# Altium integrated library Actel IGLOO nano.IntLib: 184 symbols (part 9 of 10)
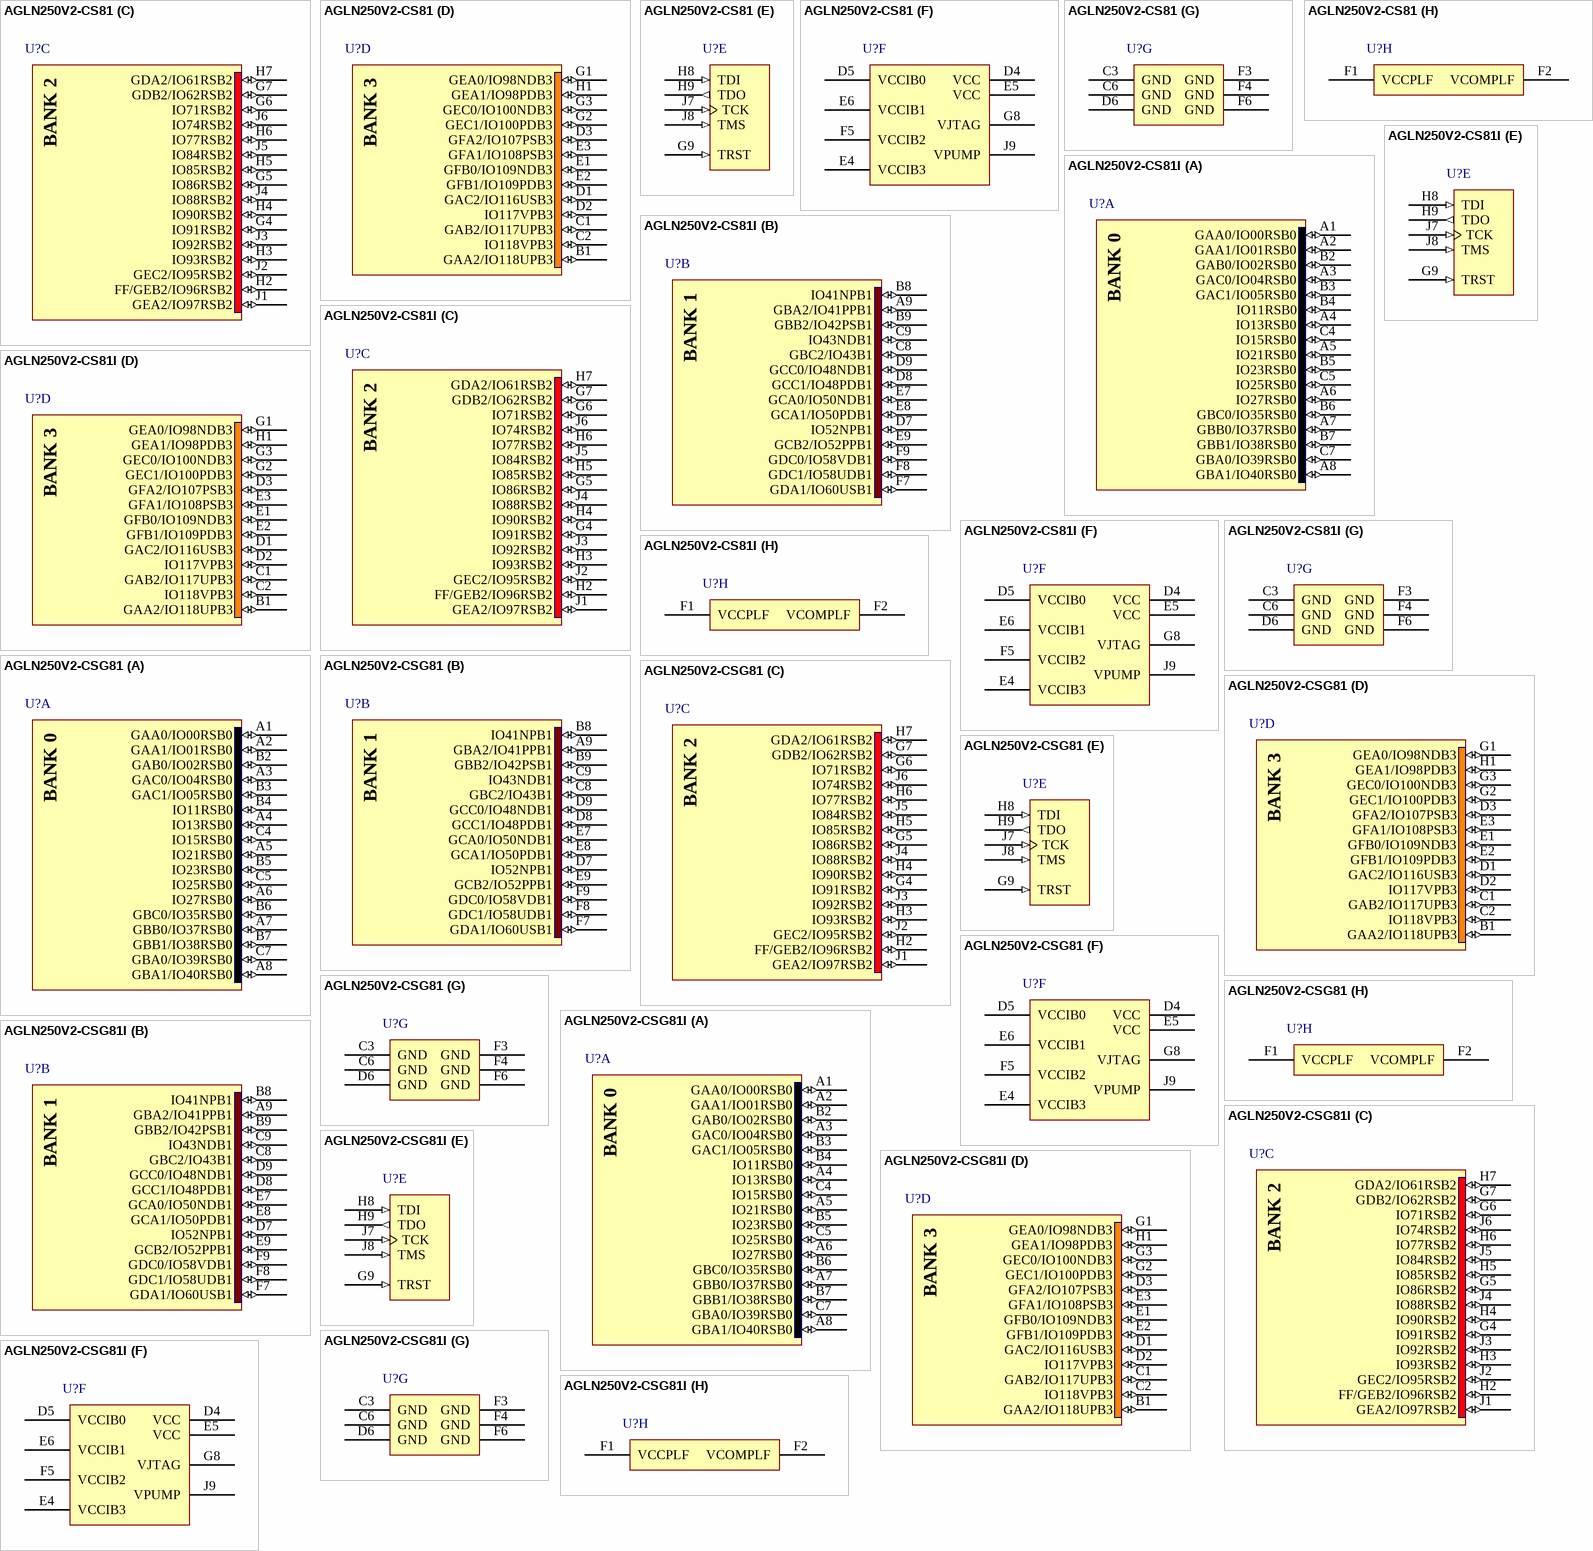
[diagram p56: symbols AGLN250V2-CS81 to AGLN250V2-CSG81I]

## AGLN250V2-CS81I
designator U?
IGLOO nano Low-Power Flash 1.2 to 1.5V FPGA with Flash*Freeze, 60 User IOs, 250K System Gates, 1Kbit Flash ROM, 81-Pin CSP, Industrial Grade; DatasheetVersion: rev11, Jul-2010; PackageVersion: rev40, Jun-2011; PackageReference: CS81; PackageDescription: 81-Ball Chip Scale Ball Grid Array 0.5 mm Pitch (CS81); Code_JEDEC: MO-195-AB; ComponentLink1Description: Manufacturer URL; ComponentLink1URL: http://www.actel.com/; ComponentLink2Description: IGLOO nano Datasheet; ComponentLink2URL: http://www.actel.com/documents/IGLOO_nano_DS.pdf; ComponentLink3Description: Package Mechanical Drawings; ComponentLink3URL: http://www.actel.com/documents/PckgMechDrwngs.pdf; ComponentLink4Description: IGLOO nano Documents; ComponentLink4URL: http://www.actel.com/products/igloonano/docs.aspx
footprint CS81 (BGA, 81-Leads, Body 5x5mm, Pitch 0.5mm)
part A pins: A1 GAA0/IO00RSB0 (io), A2 GAA1/IO01RSB0 (io), A3 GAC0/IO04RSB0 (io), A4 IO13RSB0 (io), A5 IO21RSB0 (io), A6 IO27RSB0 (io), A7 GBB0/IO37RSB0 (io), A8 GBA1/IO40RSB0 (io), B2 GAB0/IO02RSB0 (io), B3 GAC1/IO05RSB0 (io), B4 IO11RSB0 (io), B5 IO23RSB0 (io), B6 GBC0/IO35RSB0 (io), B7 GBB1/IO38RSB0 (io), C4 IO15RSB0 (io), C5 IO25RSB0 (io), C7 GBA0/IO39RSB0 (io)
part B pins: A9 GBA2/IO41PPB1 (io), B8 IO41NPB1 (io), B9 GBB2/IO42PSB1 (io), C8 GBC2/IO43B1 (io), C9 IO43NDB1 (io), D7 IO52NPB1 (io), D8 GCC1/IO48PDB1 (io), D9 GCC0/IO48NDB1 (io), E7 GCA0/IO50NDB1 (io), E8 GCA1/IO50PDB1 (io), E9 GCB2/IO52PPB1 (io), F7 GDA1/IO60USB1 (io), F8 GDC1/IO58UDB1 (io), F9 GDC0/IO58VDB1 (io)
part C pins: G4 IO91RSB2 (io), G5 IO86RSB2 (io), G6 IO71RSB2 (io), G7 GDB2/IO62RSB2 (io), H2 FF/GEB2/IO96RSB2 (io), H3 IO93RSB2 (io), H4 IO90RSB2 (io), H5 IO85RSB2 (io), H6 IO77RSB2 (io), H7 GDA2/IO61RSB2 (io), J1 GEA2/IO97RSB2 (io), J2 GEC2/IO95RSB2 (io), J3 IO92RSB2 (io), J4 IO88RSB2 (io), J5 IO84RSB2 (io), J6 IO74RSB2 (io)
part D pins: B1 GAA2/IO118UPB3 (io), C1 GAB2/IO117UPB3 (io), C2 IO118VPB3 (io), D1 GAC2/IO116USB3 (io), D2 IO117VPB3 (io), D3 GFA2/IO107PSB3 (io), E1 GFB0/IO109NDB3 (io), E2 GFB1/IO109PDB3 (io), E3 GFA1/IO108PSB3 (io), G1 GEA0/IO98NDB3 (io), G2 GEC1/IO100PDB3 (io), G3 GEC0/IO100NDB3 (io), H1 GEA1/IO98PDB3 (io)
part E pins: G9 TRST (in), H8 TDI (in), H9 TDO (out), J7 TCK (in), J8 TMS (in)
part F pins: D4 VCC (power), D5 VCCIB0 (power), E4 VCCIB3 (power), E5 VCC (power), E6 VCCIB1 (power), F5 VCCIB2 (power), G8 VJTAG (power), J9 VPUMP (power)
part G pins: C3 GND (power), C6 GND (power), D6 GND (power), F3 GND (power), F4 GND (power), F6 GND (power)
part H pins: F1 VCCPLF (power), F2 VCOMPLF (power)
part A text: BANK 0
part B text: BANK 1
part C text: BANK 2
part D text: BANK 3

## AGLN250V2-CSG81
designator U?
IGLOO nano Low-Power Flash 1.2 to 1.5V FPGA with Flash*Freeze, 60 User IOs, 250K System Gates, 1Kbit Flash ROM, 81-Pin CSP, Commercial Grade, Pb-Free; DatasheetVersion: rev11, Jul-2010; PackageVersion: rev40, Jun-2011; PackageReference: CS81; PackageDescription: 81-Ball Chip Scale Ball Grid Array 0.5 mm Pitch (CS81); Code_JEDEC: MO-195-AB; ComponentLink1Description: Manufacturer URL; ComponentLink1URL: http://www.actel.com/; ComponentLink2Description: IGLOO nano Datasheet; ComponentLink2URL: http://www.actel.com/documents/IGLOO_nano_DS.pdf; ComponentLink3Description: Package Mechanical Drawings; ComponentLink3URL: http://www.actel.com/documents/PckgMechDrwngs.pdf; ComponentLink4Description: IGLOO nano Documents; ComponentLink4URL: http://www.actel.com/products/igloonano/docs.aspx
footprint CS81 (BGA, 81-Leads, Body 5x5mm, Pitch 0.5mm)
part A pins: A1 GAA0/IO00RSB0 (io), A2 GAA1/IO01RSB0 (io), A3 GAC0/IO04RSB0 (io), A4 IO13RSB0 (io), A5 IO21RSB0 (io), A6 IO27RSB0 (io), A7 GBB0/IO37RSB0 (io), A8 GBA1/IO40RSB0 (io), B2 GAB0/IO02RSB0 (io), B3 GAC1/IO05RSB0 (io), B4 IO11RSB0 (io), B5 IO23RSB0 (io), B6 GBC0/IO35RSB0 (io), B7 GBB1/IO38RSB0 (io), C4 IO15RSB0 (io), C5 IO25RSB0 (io), C7 GBA0/IO39RSB0 (io)
part B pins: A9 GBA2/IO41PPB1 (io), B8 IO41NPB1 (io), B9 GBB2/IO42PSB1 (io), C8 GBC2/IO43B1 (io), C9 IO43NDB1 (io), D7 IO52NPB1 (io), D8 GCC1/IO48PDB1 (io), D9 GCC0/IO48NDB1 (io), E7 GCA0/IO50NDB1 (io), E8 GCA1/IO50PDB1 (io), E9 GCB2/IO52PPB1 (io), F7 GDA1/IO60USB1 (io), F8 GDC1/IO58UDB1 (io), F9 GDC0/IO58VDB1 (io)
part C pins: G4 IO91RSB2 (io), G5 IO86RSB2 (io), G6 IO71RSB2 (io), G7 GDB2/IO62RSB2 (io), H2 FF/GEB2/IO96RSB2 (io), H3 IO93RSB2 (io), H4 IO90RSB2 (io), H5 IO85RSB2 (io), H6 IO77RSB2 (io), H7 GDA2/IO61RSB2 (io), J1 GEA2/IO97RSB2 (io), J2 GEC2/IO95RSB2 (io), J3 IO92RSB2 (io), J4 IO88RSB2 (io), J5 IO84RSB2 (io), J6 IO74RSB2 (io)
part D pins: B1 GAA2/IO118UPB3 (io), C1 GAB2/IO117UPB3 (io), C2 IO118VPB3 (io), D1 GAC2/IO116USB3 (io), D2 IO117VPB3 (io), D3 GFA2/IO107PSB3 (io), E1 GFB0/IO109NDB3 (io), E2 GFB1/IO109PDB3 (io), E3 GFA1/IO108PSB3 (io), G1 GEA0/IO98NDB3 (io), G2 GEC1/IO100PDB3 (io), G3 GEC0/IO100NDB3 (io), H1 GEA1/IO98PDB3 (io)
part E pins: G9 TRST (in), H8 TDI (in), H9 TDO (out), J7 TCK (in), J8 TMS (in)
part F pins: D4 VCC (power), D5 VCCIB0 (power), E4 VCCIB3 (power), E5 VCC (power), E6 VCCIB1 (power), F5 VCCIB2 (power), G8 VJTAG (power), J9 VPUMP (power)
part G pins: C3 GND (power), C6 GND (power), D6 GND (power), F3 GND (power), F4 GND (power), F6 GND (power)
part H pins: F1 VCCPLF (power), F2 VCOMPLF (power)
part A text: BANK 0
part B text: BANK 1
part C text: BANK 2
part D text: BANK 3

## AGLN250V2-CSG81I
designator U?
IGLOO nano Low-Power Flash 1.2 to 1.5V FPGA with Flash*Freeze, 60 User IOs, 250K System Gates, 1Kbit Flash ROM, 81-Pin CSP, Industrial Grade, Pb-Free; DatasheetVersion: rev11, Jul-2010; PackageVersion: rev40, Jun-2011; PackageReference: CS81; PackageDescription: 81-Ball Chip Scale Ball Grid Array 0.5 mm Pitch (CS81); Code_JEDEC: MO-195-AB; ComponentLink1Description: Manufacturer URL; ComponentLink1URL: http://www.actel.com/; ComponentLink2Description: IGLOO nano Datasheet; ComponentLink2URL: http://www.actel.com/documents/IGLOO_nano_DS.pdf; ComponentLink3Description: Package Mechanical Drawings; ComponentLink3URL: http://www.actel.com/documents/PckgMechDrwngs.pdf; ComponentLink4Description: IGLOO nano Documents; ComponentLink4URL: http://www.actel.com/products/igloonano/docs.aspx
footprint CS81 (BGA, 81-Leads, Body 5x5mm, Pitch 0.5mm)
part A pins: A1 GAA0/IO00RSB0 (io), A2 GAA1/IO01RSB0 (io), A3 GAC0/IO04RSB0 (io), A4 IO13RSB0 (io), A5 IO21RSB0 (io), A6 IO27RSB0 (io), A7 GBB0/IO37RSB0 (io), A8 GBA1/IO40RSB0 (io), B2 GAB0/IO02RSB0 (io), B3 GAC1/IO05RSB0 (io), B4 IO11RSB0 (io), B5 IO23RSB0 (io), B6 GBC0/IO35RSB0 (io), B7 GBB1/IO38RSB0 (io), C4 IO15RSB0 (io), C5 IO25RSB0 (io), C7 GBA0/IO39RSB0 (io)
part B pins: A9 GBA2/IO41PPB1 (io), B8 IO41NPB1 (io), B9 GBB2/IO42PSB1 (io), C8 GBC2/IO43B1 (io), C9 IO43NDB1 (io), D7 IO52NPB1 (io), D8 GCC1/IO48PDB1 (io), D9 GCC0/IO48NDB1 (io), E7 GCA0/IO50NDB1 (io), E8 GCA1/IO50PDB1 (io), E9 GCB2/IO52PPB1 (io), F7 GDA1/IO60USB1 (io), F8 GDC1/IO58UDB1 (io), F9 GDC0/IO58VDB1 (io)
part C pins: G4 IO91RSB2 (io), G5 IO86RSB2 (io), G6 IO71RSB2 (io), G7 GDB2/IO62RSB2 (io), H2 FF/GEB2/IO96RSB2 (io), H3 IO93RSB2 (io), H4 IO90RSB2 (io), H5 IO85RSB2 (io), H6 IO77RSB2 (io), H7 GDA2/IO61RSB2 (io), J1 GEA2/IO97RSB2 (io), J2 GEC2/IO95RSB2 (io), J3 IO92RSB2 (io), J4 IO88RSB2 (io), J5 IO84RSB2 (io), J6 IO74RSB2 (io)
part D pins: B1 GAA2/IO118UPB3 (io), C1 GAB2/IO117UPB3 (io), C2 IO118VPB3 (io), D1 GAC2/IO116USB3 (io), D2 IO117VPB3 (io), D3 GFA2/IO107PSB3 (io), E1 GFB0/IO109NDB3 (io), E2 GFB1/IO109PDB3 (io), E3 GFA1/IO108PSB3 (io), G1 GEA0/IO98NDB3 (io), G2 GEC1/IO100PDB3 (io), G3 GEC0/IO100NDB3 (io), H1 GEA1/IO98PDB3 (io)
part E pins: G9 TRST (in), H8 TDI (in), H9 TDO (out), J7 TCK (in), J8 TMS (in)
part F pins: D4 VCC (power), D5 VCCIB0 (power), E4 VCCIB3 (power), E5 VCC (power), E6 VCCIB1 (power), F5 VCCIB2 (power), G8 VJTAG (power), J9 VPUMP (power)
part G pins: C3 GND (power), C6 GND (power), D6 GND (power), F3 GND (power), F4 GND (power), F6 GND (power)
part H pins: F1 VCCPLF (power), F2 VCOMPLF (power)
part A text: BANK 0
part B text: BANK 1
part C text: BANK 2
part D text: BANK 3

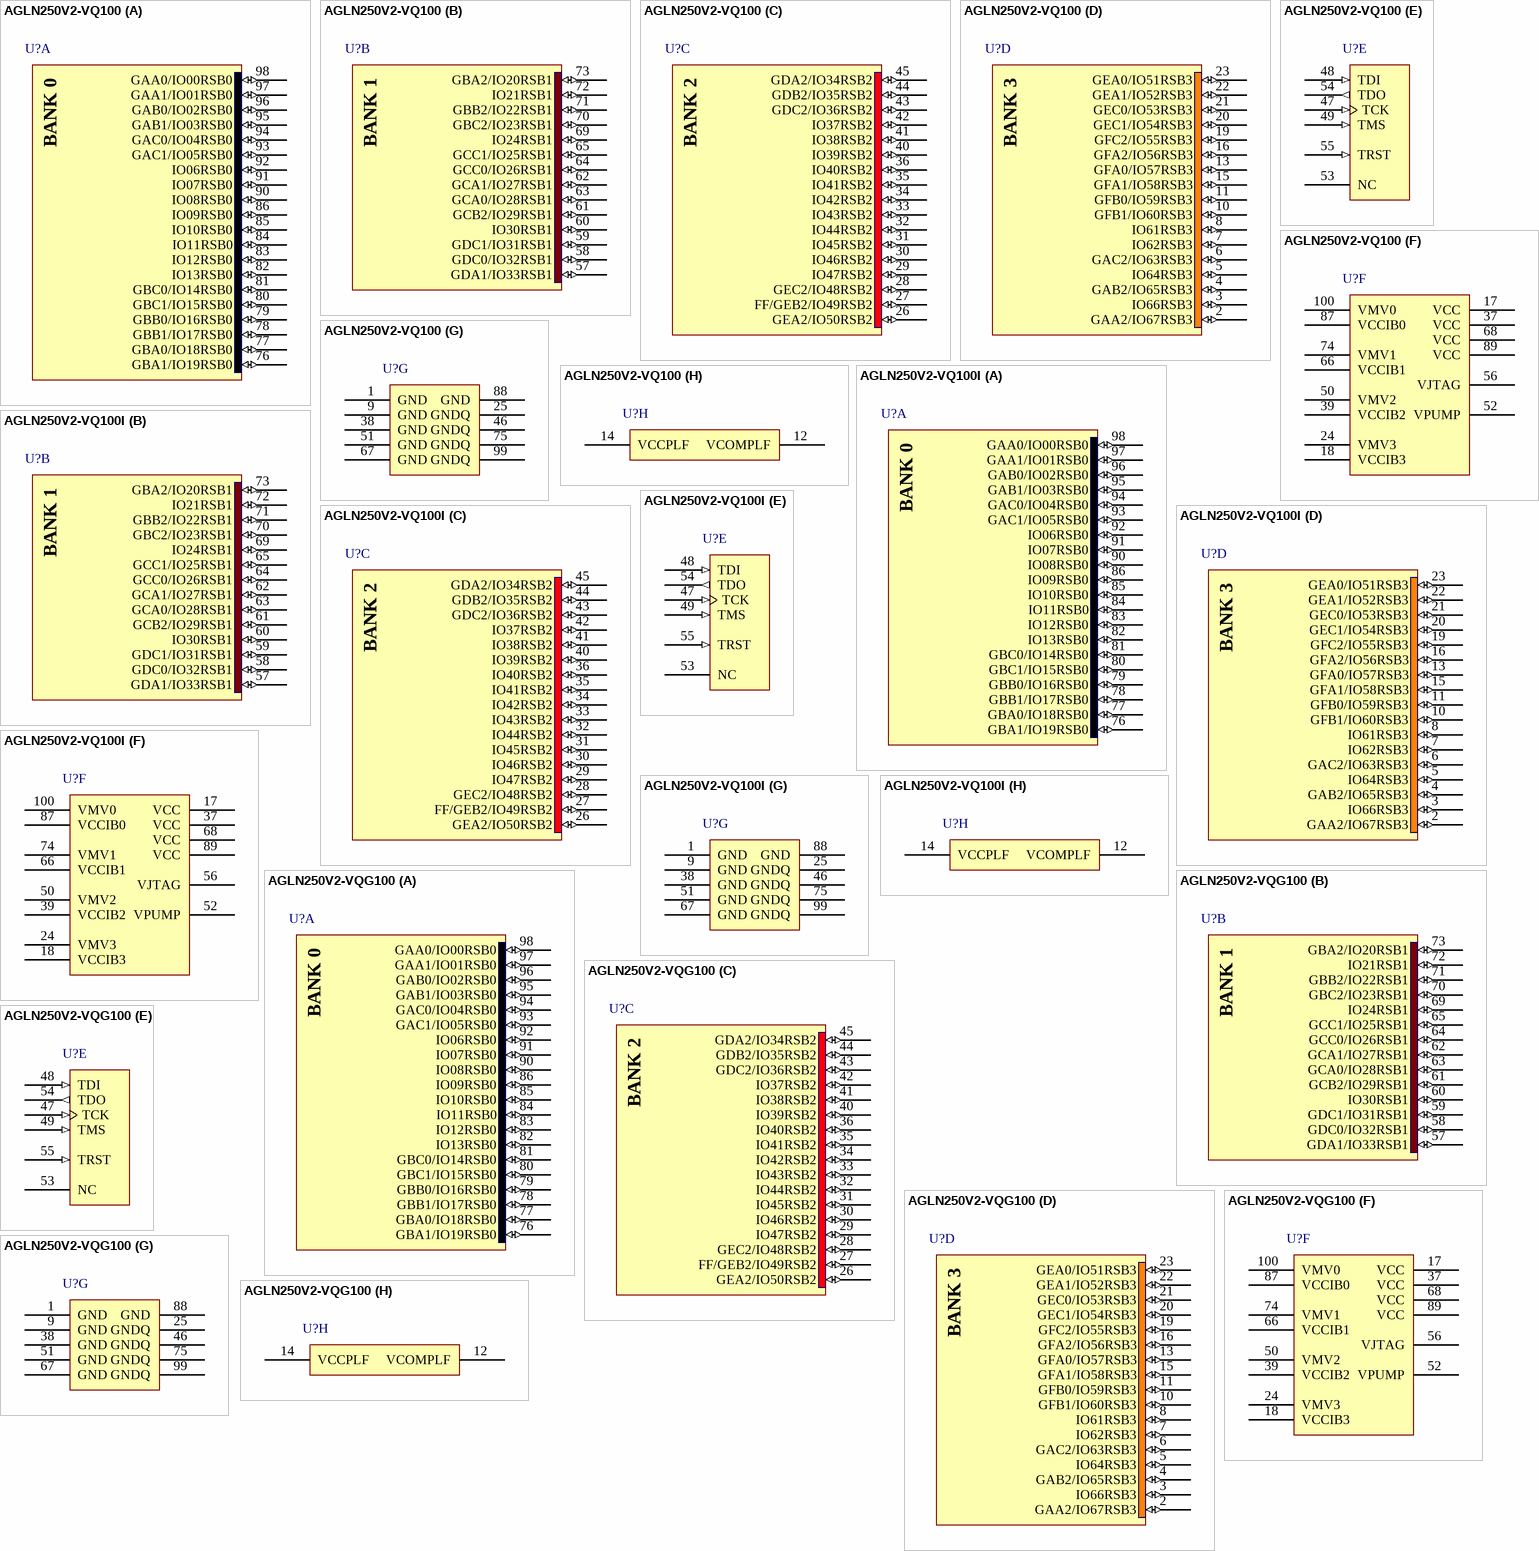
[diagram p40: symbols AGLN250V2-VQ100 to AGLN250V2-VQG100]

## AGLN250V2-VQ100
designator U?
IGLOO nano Low-Power Flash 1.2 to 1.5V FPGA with Flash*Freeze, 68 User IOs, 250K System Gates, 1Kbit Flash ROM, 100-Pin TQFP, Commercial Grade; DatasheetVersion: rev11, Jul-2010; PackageVersion: rev40, Jun-2011; PackageReference: VQ100; PackageDescription: 100-Pin Plastic Quad Flat Pack (VQ100); Code_JEDEC: MS-026-AED; ComponentLink1Description: Manufacturer URL; ComponentLink1URL: http://www.actel.com/; ComponentLink2Description: IGLOO nano Datasheet; ComponentLink2URL: http://www.actel.com/documents/IGLOO_nano_DS.pdf; ComponentLink3Description: Package Mechanical Drawings; ComponentLink3URL: http://www.actel.com/documents/PckgMechDrwngs.pdf; ComponentLink4Description: IGLOO nano Documents; ComponentLink4URL: http://www.actel.com/products/igloonano/docs.aspx
footprint VQ100_N (Thin QFP, 100-Leads, Body 14x14mm, Pitch 0.5mm, IPC Medium Density)
footprint VQ100_L (Thin QFP, 100-Leads, Body 14x14mm, Pitch 0.5mm, IPC High Density)
footprint VQ100_M (Thin QFP, 100-Leads, Body 14x14mm, Pitch 0.5mm, IPC Low Density)
part A pins: 76 GBA1/IO19RSB0 (io), 77 GBA0/IO18RSB0 (io), 78 GBB1/IO17RSB0 (io), 79 GBB0/IO16RSB0 (io), 80 GBC1/IO15RSB0 (io), 81 GBC0/IO14RSB0 (io), 82 IO13RSB0 (io), 83 IO12RSB0 (io), 84 IO11RSB0 (io), 85 IO10RSB0 (io), 86 IO09RSB0 (io), 90 IO08RSB0 (io), 91 IO07RSB0 (io), 92 IO06RSB0 (io), 93 GAC1/IO05RSB0 (io), 94 GAC0/IO04RSB0 (io), 95 GAB1/IO03RSB0 (io), 96 GAB0/IO02RSB0 (io), 97 GAA1/IO01RSB0 (io), 98 GAA0/IO00RSB0 (io)
part B pins: 57 GDA1/IO33RSB1 (io), 58 GDC0/IO32RSB1 (io), 59 GDC1/IO31RSB1 (io), 60 IO30RSB1 (io), 61 GCB2/IO29RSB1 (io), 62 GCA1/IO27RSB1 (io), 63 GCA0/IO28RSB1 (io), 64 GCC0/IO26RSB1 (io), 65 GCC1/IO25RSB1 (io), 69 IO24RSB1 (io), 70 GBC2/IO23RSB1 (io), 71 GBB2/IO22RSB1 (io), 72 IO21RSB1 (io), 73 GBA2/IO20RSB1 (io)
part C pins: 26 GEA2/IO50RSB2 (io), 27 FF/GEB2/IO49RSB2 (io), 28 GEC2/IO48RSB2 (io), 29 IO47RSB2 (io), 30 IO46RSB2 (io), 31 IO45RSB2 (io), 32 IO44RSB2 (io), 33 IO43RSB2 (io), 34 IO42RSB2 (io), 35 IO41RSB2 (io), 36 IO40RSB2 (io), 40 IO39RSB2 (io), 41 IO38RSB2 (io), 42 IO37RSB2 (io), 43 GDC2/IO36RSB2 (io), 44 GDB2/IO35RSB2 (io), 45 GDA2/IO34RSB2 (io)
part D pins: 2 GAA2/IO67RSB3 (io), 3 IO66RSB3 (io), 4 GAB2/IO65RSB3 (io), 5 IO64RSB3 (io), 6 GAC2/IO63RSB3 (io), 7 IO62RSB3 (io), 8 IO61RSB3 (io), 10 GFB1/IO60RSB3 (io), 11 GFB0/IO59RSB3 (io), 13 GFA0/IO57RSB3 (io), 15 GFA1/IO58RSB3 (io), 16 GFA2/IO56RSB3 (io), 19 GFC2/IO55RSB3 (io), 20 GEC1/IO54RSB3 (io), 21 GEC0/IO53RSB3 (io), 22 GEA1/IO52RSB3 (io), 23 GEA0/IO51RSB3 (io)
part E pins: 47 TCK (in), 48 TDI (in), 49 TMS (in), 53 NC, 54 TDO (out), 55 TRST (in)
part F pins: 17 VCC (power), 18 VCCIB3 (power), 24 VMV3 (power), 37 VCC (power), 39 VCCIB2 (power), 50 VMV2 (power), 52 VPUMP (power), 56 VJTAG (power), 66 VCCIB1 (power), 68 VCC (power), 74 VMV1 (power), 87 VCCIB0 (power), 89 VCC (power), 100 VMV0 (power)
part G pins: 1 GND (power), 9 GND (power), 25 GNDQ (power), 38 GND (power), 46 GNDQ (power), 51 GND (power), 67 GND (power), 75 GNDQ (power), 88 GND (power), 99 GNDQ (power)
part H pins: 12 VCOMPLF (power), 14 VCCPLF (power)
part A text: BANK 0
part B text: BANK 1
part C text: BANK 2
part D text: BANK 3

## AGLN250V2-VQ100I
designator U?
IGLOO nano Low-Power Flash 1.2 to 1.5V FPGA with Flash*Freeze, 68 User IOs, 250K System Gates, 1Kbit Flash ROM, 100-Pin TQFP, Industrial Grade; DatasheetVersion: rev11, Jul-2010; PackageVersion: rev40, Jun-2011; PackageReference: VQ100; PackageDescription: 100-Pin Plastic Quad Flat Pack (VQ100); Code_JEDEC: MS-026-AED; ComponentLink1Description: Manufacturer URL; ComponentLink1URL: http://www.actel.com/; ComponentLink2Description: IGLOO nano Datasheet; ComponentLink2URL: http://www.actel.com/documents/IGLOO_nano_DS.pdf; ComponentLink3Description: Package Mechanical Drawings; ComponentLink3URL: http://www.actel.com/documents/PckgMechDrwngs.pdf; ComponentLink4Description: IGLOO nano Documents; ComponentLink4URL: http://www.actel.com/products/igloonano/docs.aspx
footprint VQ100_N (Thin QFP, 100-Leads, Body 14x14mm, Pitch 0.5mm, IPC Medium Density)
footprint VQ100_L (Thin QFP, 100-Leads, Body 14x14mm, Pitch 0.5mm, IPC High Density)
footprint VQ100_M (Thin QFP, 100-Leads, Body 14x14mm, Pitch 0.5mm, IPC Low Density)
part A pins: 76 GBA1/IO19RSB0 (io), 77 GBA0/IO18RSB0 (io), 78 GBB1/IO17RSB0 (io), 79 GBB0/IO16RSB0 (io), 80 GBC1/IO15RSB0 (io), 81 GBC0/IO14RSB0 (io), 82 IO13RSB0 (io), 83 IO12RSB0 (io), 84 IO11RSB0 (io), 85 IO10RSB0 (io), 86 IO09RSB0 (io), 90 IO08RSB0 (io), 91 IO07RSB0 (io), 92 IO06RSB0 (io), 93 GAC1/IO05RSB0 (io), 94 GAC0/IO04RSB0 (io), 95 GAB1/IO03RSB0 (io), 96 GAB0/IO02RSB0 (io), 97 GAA1/IO01RSB0 (io), 98 GAA0/IO00RSB0 (io)
part B pins: 57 GDA1/IO33RSB1 (io), 58 GDC0/IO32RSB1 (io), 59 GDC1/IO31RSB1 (io), 60 IO30RSB1 (io), 61 GCB2/IO29RSB1 (io), 62 GCA1/IO27RSB1 (io), 63 GCA0/IO28RSB1 (io), 64 GCC0/IO26RSB1 (io), 65 GCC1/IO25RSB1 (io), 69 IO24RSB1 (io), 70 GBC2/IO23RSB1 (io), 71 GBB2/IO22RSB1 (io), 72 IO21RSB1 (io), 73 GBA2/IO20RSB1 (io)
part C pins: 26 GEA2/IO50RSB2 (io), 27 FF/GEB2/IO49RSB2 (io), 28 GEC2/IO48RSB2 (io), 29 IO47RSB2 (io), 30 IO46RSB2 (io), 31 IO45RSB2 (io), 32 IO44RSB2 (io), 33 IO43RSB2 (io), 34 IO42RSB2 (io), 35 IO41RSB2 (io), 36 IO40RSB2 (io), 40 IO39RSB2 (io), 41 IO38RSB2 (io), 42 IO37RSB2 (io), 43 GDC2/IO36RSB2 (io), 44 GDB2/IO35RSB2 (io), 45 GDA2/IO34RSB2 (io)
part D pins: 2 GAA2/IO67RSB3 (io), 3 IO66RSB3 (io), 4 GAB2/IO65RSB3 (io), 5 IO64RSB3 (io), 6 GAC2/IO63RSB3 (io), 7 IO62RSB3 (io), 8 IO61RSB3 (io), 10 GFB1/IO60RSB3 (io), 11 GFB0/IO59RSB3 (io), 13 GFA0/IO57RSB3 (io), 15 GFA1/IO58RSB3 (io), 16 GFA2/IO56RSB3 (io), 19 GFC2/IO55RSB3 (io), 20 GEC1/IO54RSB3 (io), 21 GEC0/IO53RSB3 (io), 22 GEA1/IO52RSB3 (io), 23 GEA0/IO51RSB3 (io)
part E pins: 47 TCK (in), 48 TDI (in), 49 TMS (in), 53 NC, 54 TDO (out), 55 TRST (in)
part F pins: 17 VCC (power), 18 VCCIB3 (power), 24 VMV3 (power), 37 VCC (power), 39 VCCIB2 (power), 50 VMV2 (power), 52 VPUMP (power), 56 VJTAG (power), 66 VCCIB1 (power), 68 VCC (power), 74 VMV1 (power), 87 VCCIB0 (power), 89 VCC (power), 100 VMV0 (power)
part G pins: 1 GND (power), 9 GND (power), 25 GNDQ (power), 38 GND (power), 46 GNDQ (power), 51 GND (power), 67 GND (power), 75 GNDQ (power), 88 GND (power), 99 GNDQ (power)
part H pins: 12 VCOMPLF (power), 14 VCCPLF (power)
part A text: BANK 0
part B text: BANK 1
part C text: BANK 2
part D text: BANK 3

## AGLN250V2-VQG100
designator U?
IGLOO nano Low-Power Flash 1.2 to 1.5V FPGA with Flash*Freeze, 68 User IOs, 250K System Gates, 1Kbit Flash ROM, 100-Pin TQFP, Commercial Grade, Pb-Free; DatasheetVersion: rev11, Jul-2010; PackageVersion: rev40, Jun-2011; PackageReference: VQ100; PackageDescription: 100-Pin Plastic Quad Flat Pack (VQ100); Code_JEDEC: MS-026-AED; ComponentLink1Description: Manufacturer URL; ComponentLink1URL: http://www.actel.com/; ComponentLink2Description: IGLOO nano Datasheet; ComponentLink2URL: http://www.actel.com/documents/IGLOO_nano_DS.pdf; ComponentLink3Description: Package Mechanical Drawings; ComponentLink3URL: http://www.actel.com/documents/PckgMechDrwngs.pdf; ComponentLink4Description: IGLOO nano Documents; ComponentLink4URL: http://www.actel.com/products/igloonano/docs.aspx
footprint VQ100_N (Thin QFP, 100-Leads, Body 14x14mm, Pitch 0.5mm, IPC Medium Density)
footprint VQ100_L (Thin QFP, 100-Leads, Body 14x14mm, Pitch 0.5mm, IPC High Density)
footprint VQ100_M (Thin QFP, 100-Leads, Body 14x14mm, Pitch 0.5mm, IPC Low Density)
part A pins: 76 GBA1/IO19RSB0 (io), 77 GBA0/IO18RSB0 (io), 78 GBB1/IO17RSB0 (io), 79 GBB0/IO16RSB0 (io), 80 GBC1/IO15RSB0 (io), 81 GBC0/IO14RSB0 (io), 82 IO13RSB0 (io), 83 IO12RSB0 (io), 84 IO11RSB0 (io), 85 IO10RSB0 (io), 86 IO09RSB0 (io), 90 IO08RSB0 (io), 91 IO07RSB0 (io), 92 IO06RSB0 (io), 93 GAC1/IO05RSB0 (io), 94 GAC0/IO04RSB0 (io), 95 GAB1/IO03RSB0 (io), 96 GAB0/IO02RSB0 (io), 97 GAA1/IO01RSB0 (io), 98 GAA0/IO00RSB0 (io)
part B pins: 57 GDA1/IO33RSB1 (io), 58 GDC0/IO32RSB1 (io), 59 GDC1/IO31RSB1 (io), 60 IO30RSB1 (io), 61 GCB2/IO29RSB1 (io), 62 GCA1/IO27RSB1 (io), 63 GCA0/IO28RSB1 (io), 64 GCC0/IO26RSB1 (io), 65 GCC1/IO25RSB1 (io), 69 IO24RSB1 (io), 70 GBC2/IO23RSB1 (io), 71 GBB2/IO22RSB1 (io), 72 IO21RSB1 (io), 73 GBA2/IO20RSB1 (io)
part C pins: 26 GEA2/IO50RSB2 (io), 27 FF/GEB2/IO49RSB2 (io), 28 GEC2/IO48RSB2 (io), 29 IO47RSB2 (io), 30 IO46RSB2 (io), 31 IO45RSB2 (io), 32 IO44RSB2 (io), 33 IO43RSB2 (io), 34 IO42RSB2 (io), 35 IO41RSB2 (io), 36 IO40RSB2 (io), 40 IO39RSB2 (io), 41 IO38RSB2 (io), 42 IO37RSB2 (io), 43 GDC2/IO36RSB2 (io), 44 GDB2/IO35RSB2 (io), 45 GDA2/IO34RSB2 (io)
part D pins: 2 GAA2/IO67RSB3 (io), 3 IO66RSB3 (io), 4 GAB2/IO65RSB3 (io), 5 IO64RSB3 (io), 6 GAC2/IO63RSB3 (io), 7 IO62RSB3 (io), 8 IO61RSB3 (io), 10 GFB1/IO60RSB3 (io), 11 GFB0/IO59RSB3 (io), 13 GFA0/IO57RSB3 (io), 15 GFA1/IO58RSB3 (io), 16 GFA2/IO56RSB3 (io), 19 GFC2/IO55RSB3 (io), 20 GEC1/IO54RSB3 (io), 21 GEC0/IO53RSB3 (io), 22 GEA1/IO52RSB3 (io), 23 GEA0/IO51RSB3 (io)
part E pins: 47 TCK (in), 48 TDI (in), 49 TMS (in), 53 NC, 54 TDO (out), 55 TRST (in)
part F pins: 17 VCC (power), 18 VCCIB3 (power), 24 VMV3 (power), 37 VCC (power), 39 VCCIB2 (power), 50 VMV2 (power), 52 VPUMP (power), 56 VJTAG (power), 66 VCCIB1 (power), 68 VCC (power), 74 VMV1 (power), 87 VCCIB0 (power), 89 VCC (power), 100 VMV0 (power)
part G pins: 1 GND (power), 9 GND (power), 25 GNDQ (power), 38 GND (power), 46 GNDQ (power), 51 GND (power), 67 GND (power), 75 GNDQ (power), 88 GND (power), 99 GNDQ (power)
part H pins: 12 VCOMPLF (power), 14 VCCPLF (power)
part A text: BANK 0
part B text: BANK 1
part C text: BANK 2
part D text: BANK 3

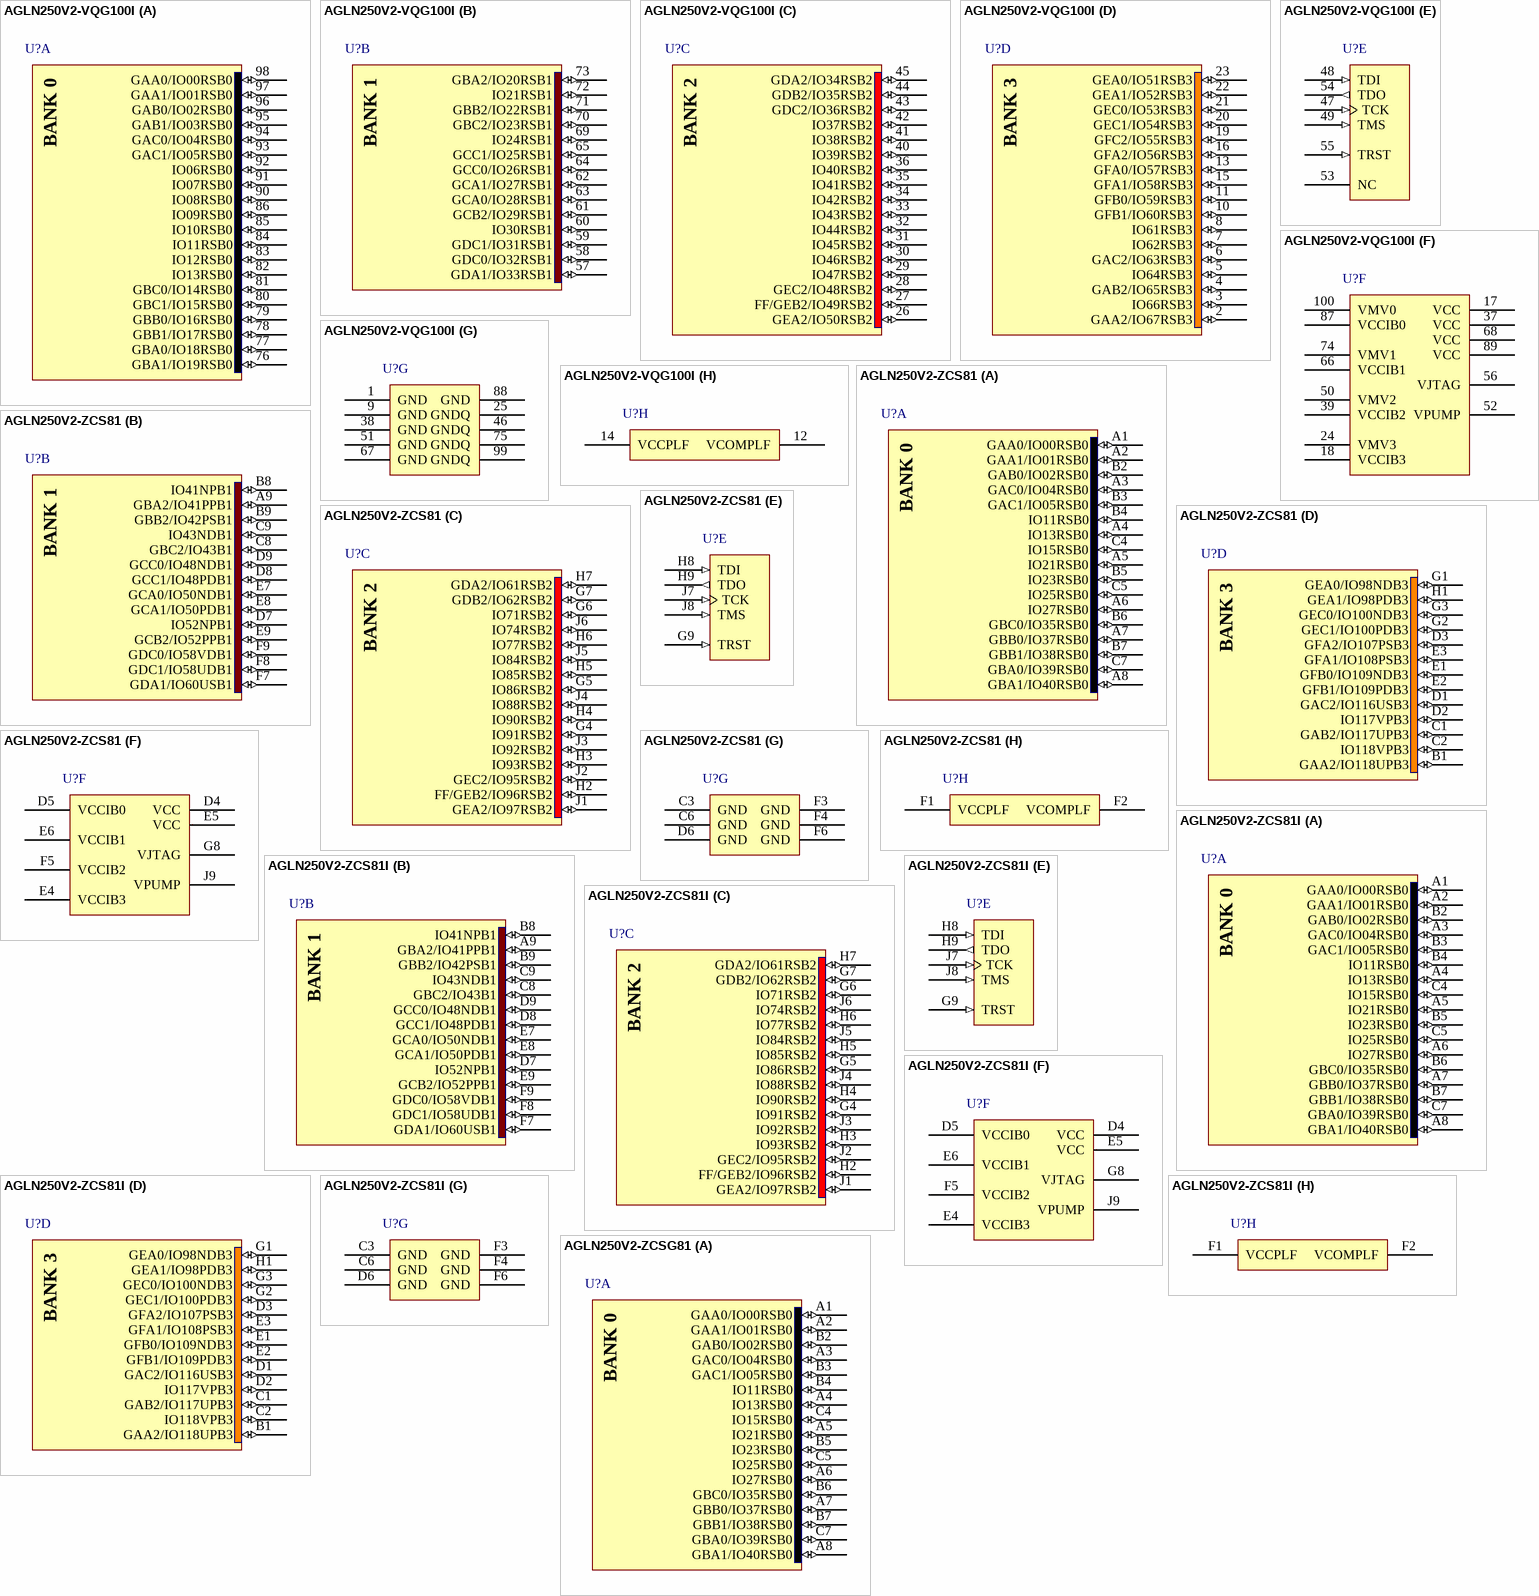
[diagram p41: symbols AGLN250V2-VQG100I to AGLN250V2-ZCSG81]

## AGLN250V2-VQG100I
designator U?
IGLOO nano Low-Power Flash 1.2 to 1.5V FPGA with Flash*Freeze, 68 User IOs, 250K System Gates, 1Kbit Flash ROM, 100-Pin TQFP, Industrial Grade, Pb-Free; DatasheetVersion: rev11, Jul-2010; PackageVersion: rev40, Jun-2011; PackageReference: VQ100; PackageDescription: 100-Pin Plastic Quad Flat Pack (VQ100); Code_JEDEC: MS-026-AED; ComponentLink1Description: Manufacturer URL; ComponentLink1URL: http://www.actel.com/; ComponentLink2Description: IGLOO nano Datasheet; ComponentLink2URL: http://www.actel.com/documents/IGLOO_nano_DS.pdf; ComponentLink3Description: Package Mechanical Drawings; ComponentLink3URL: http://www.actel.com/documents/PckgMechDrwngs.pdf; ComponentLink4Description: IGLOO nano Documents; ComponentLink4URL: http://www.actel.com/products/igloonano/docs.aspx
footprint VQ100_N (Thin QFP, 100-Leads, Body 14x14mm, Pitch 0.5mm, IPC Medium Density)
footprint VQ100_L (Thin QFP, 100-Leads, Body 14x14mm, Pitch 0.5mm, IPC High Density)
footprint VQ100_M (Thin QFP, 100-Leads, Body 14x14mm, Pitch 0.5mm, IPC Low Density)
part A pins: 76 GBA1/IO19RSB0 (io), 77 GBA0/IO18RSB0 (io), 78 GBB1/IO17RSB0 (io), 79 GBB0/IO16RSB0 (io), 80 GBC1/IO15RSB0 (io), 81 GBC0/IO14RSB0 (io), 82 IO13RSB0 (io), 83 IO12RSB0 (io), 84 IO11RSB0 (io), 85 IO10RSB0 (io), 86 IO09RSB0 (io), 90 IO08RSB0 (io), 91 IO07RSB0 (io), 92 IO06RSB0 (io), 93 GAC1/IO05RSB0 (io), 94 GAC0/IO04RSB0 (io), 95 GAB1/IO03RSB0 (io), 96 GAB0/IO02RSB0 (io), 97 GAA1/IO01RSB0 (io), 98 GAA0/IO00RSB0 (io)
part B pins: 57 GDA1/IO33RSB1 (io), 58 GDC0/IO32RSB1 (io), 59 GDC1/IO31RSB1 (io), 60 IO30RSB1 (io), 61 GCB2/IO29RSB1 (io), 62 GCA1/IO27RSB1 (io), 63 GCA0/IO28RSB1 (io), 64 GCC0/IO26RSB1 (io), 65 GCC1/IO25RSB1 (io), 69 IO24RSB1 (io), 70 GBC2/IO23RSB1 (io), 71 GBB2/IO22RSB1 (io), 72 IO21RSB1 (io), 73 GBA2/IO20RSB1 (io)
part C pins: 26 GEA2/IO50RSB2 (io), 27 FF/GEB2/IO49RSB2 (io), 28 GEC2/IO48RSB2 (io), 29 IO47RSB2 (io), 30 IO46RSB2 (io), 31 IO45RSB2 (io), 32 IO44RSB2 (io), 33 IO43RSB2 (io), 34 IO42RSB2 (io), 35 IO41RSB2 (io), 36 IO40RSB2 (io), 40 IO39RSB2 (io), 41 IO38RSB2 (io), 42 IO37RSB2 (io), 43 GDC2/IO36RSB2 (io), 44 GDB2/IO35RSB2 (io), 45 GDA2/IO34RSB2 (io)
part D pins: 2 GAA2/IO67RSB3 (io), 3 IO66RSB3 (io), 4 GAB2/IO65RSB3 (io), 5 IO64RSB3 (io), 6 GAC2/IO63RSB3 (io), 7 IO62RSB3 (io), 8 IO61RSB3 (io), 10 GFB1/IO60RSB3 (io), 11 GFB0/IO59RSB3 (io), 13 GFA0/IO57RSB3 (io), 15 GFA1/IO58RSB3 (io), 16 GFA2/IO56RSB3 (io), 19 GFC2/IO55RSB3 (io), 20 GEC1/IO54RSB3 (io), 21 GEC0/IO53RSB3 (io), 22 GEA1/IO52RSB3 (io), 23 GEA0/IO51RSB3 (io)
part E pins: 47 TCK (in), 48 TDI (in), 49 TMS (in), 53 NC, 54 TDO (out), 55 TRST (in)
part F pins: 17 VCC (power), 18 VCCIB3 (power), 24 VMV3 (power), 37 VCC (power), 39 VCCIB2 (power), 50 VMV2 (power), 52 VPUMP (power), 56 VJTAG (power), 66 VCCIB1 (power), 68 VCC (power), 74 VMV1 (power), 87 VCCIB0 (power), 89 VCC (power), 100 VMV0 (power)
part G pins: 1 GND (power), 9 GND (power), 25 GNDQ (power), 38 GND (power), 46 GNDQ (power), 51 GND (power), 67 GND (power), 75 GNDQ (power), 88 GND (power), 99 GNDQ (power)
part H pins: 12 VCOMPLF (power), 14 VCCPLF (power)
part A text: BANK 0
part B text: BANK 1
part C text: BANK 2
part D text: BANK 3

## AGLN250V2-ZCS81
designator U?
IGLOO nano Low-Power Flash 1.2 to 1.5V FPGA with Flash*Freeze, 60 User IOs, 250K System Gates, 1Kbit Flash ROM, Z feature grade, 81-Pin CSP, Commercial Grade; DatasheetVersion: rev11, Jul-2010; PackageVersion: rev40, Jun-2011; PackageReference: CS81; PackageDescription: 81-Ball Chip Scale Ball Grid Array 0.5 mm Pitch (CS81); Code_JEDEC: MO-195-AB; ComponentLink1Description: Manufacturer URL; ComponentLink1URL: http://www.actel.com/; ComponentLink2Description: IGLOO nano Datasheet; ComponentLink2URL: http://www.actel.com/documents/IGLOO_nano_DS.pdf; ComponentLink3Description: Package Mechanical Drawings; ComponentLink3URL: http://www.actel.com/documents/PckgMechDrwngs.pdf; ComponentLink4Description: IGLOO nano Documents; ComponentLink4URL: http://www.actel.com/products/igloonano/docs.aspx
footprint CS81 (BGA, 81-Leads, Body 5x5mm, Pitch 0.5mm)
part A pins: A1 GAA0/IO00RSB0 (io), A2 GAA1/IO01RSB0 (io), A3 GAC0/IO04RSB0 (io), A4 IO13RSB0 (io), A5 IO21RSB0 (io), A6 IO27RSB0 (io), A7 GBB0/IO37RSB0 (io), A8 GBA1/IO40RSB0 (io), B2 GAB0/IO02RSB0 (io), B3 GAC1/IO05RSB0 (io), B4 IO11RSB0 (io), B5 IO23RSB0 (io), B6 GBC0/IO35RSB0 (io), B7 GBB1/IO38RSB0 (io), C4 IO15RSB0 (io), C5 IO25RSB0 (io), C7 GBA0/IO39RSB0 (io)
part B pins: A9 GBA2/IO41PPB1 (io), B8 IO41NPB1 (io), B9 GBB2/IO42PSB1 (io), C8 GBC2/IO43B1 (io), C9 IO43NDB1 (io), D7 IO52NPB1 (io), D8 GCC1/IO48PDB1 (io), D9 GCC0/IO48NDB1 (io), E7 GCA0/IO50NDB1 (io), E8 GCA1/IO50PDB1 (io), E9 GCB2/IO52PPB1 (io), F7 GDA1/IO60USB1 (io), F8 GDC1/IO58UDB1 (io), F9 GDC0/IO58VDB1 (io)
part C pins: G4 IO91RSB2 (io), G5 IO86RSB2 (io), G6 IO71RSB2 (io), G7 GDB2/IO62RSB2 (io), H2 FF/GEB2/IO96RSB2 (io), H3 IO93RSB2 (io), H4 IO90RSB2 (io), H5 IO85RSB2 (io), H6 IO77RSB2 (io), H7 GDA2/IO61RSB2 (io), J1 GEA2/IO97RSB2 (io), J2 GEC2/IO95RSB2 (io), J3 IO92RSB2 (io), J4 IO88RSB2 (io), J5 IO84RSB2 (io), J6 IO74RSB2 (io)
part D pins: B1 GAA2/IO118UPB3 (io), C1 GAB2/IO117UPB3 (io), C2 IO118VPB3 (io), D1 GAC2/IO116USB3 (io), D2 IO117VPB3 (io), D3 GFA2/IO107PSB3 (io), E1 GFB0/IO109NDB3 (io), E2 GFB1/IO109PDB3 (io), E3 GFA1/IO108PSB3 (io), G1 GEA0/IO98NDB3 (io), G2 GEC1/IO100PDB3 (io), G3 GEC0/IO100NDB3 (io), H1 GEA1/IO98PDB3 (io)
part E pins: G9 TRST (in), H8 TDI (in), H9 TDO (out), J7 TCK (in), J8 TMS (in)
part F pins: D4 VCC (power), D5 VCCIB0 (power), E4 VCCIB3 (power), E5 VCC (power), E6 VCCIB1 (power), F5 VCCIB2 (power), G8 VJTAG (power), J9 VPUMP (power)
part G pins: C3 GND (power), C6 GND (power), D6 GND (power), F3 GND (power), F4 GND (power), F6 GND (power)
part H pins: F1 VCCPLF (power), F2 VCOMPLF (power)
part A text: BANK 0
part B text: BANK 1
part C text: BANK 2
part D text: BANK 3

## AGLN250V2-ZCS81I
designator U?
IGLOO nano Low-Power Flash 1.2 to 1.5V FPGA with Flash*Freeze, 60 User IOs, 250K System Gates, 1Kbit Flash ROM, Z feature grade, 81-Pin CSP, Industrial Grade; DatasheetVersion: rev11, Jul-2010; PackageVersion: rev40, Jun-2011; PackageReference: CS81; PackageDescription: 81-Ball Chip Scale Ball Grid Array 0.5 mm Pitch (CS81); Code_JEDEC: MO-195-AB; ComponentLink1Description: Manufacturer URL; ComponentLink1URL: http://www.actel.com/; ComponentLink2Description: IGLOO nano Datasheet; ComponentLink2URL: http://www.actel.com/documents/IGLOO_nano_DS.pdf; ComponentLink3Description: Package Mechanical Drawings; ComponentLink3URL: http://www.actel.com/documents/PckgMechDrwngs.pdf; ComponentLink4Description: IGLOO nano Documents; ComponentLink4URL: http://www.actel.com/products/igloonano/docs.aspx
footprint CS81 (BGA, 81-Leads, Body 5x5mm, Pitch 0.5mm)
part A pins: A1 GAA0/IO00RSB0 (io), A2 GAA1/IO01RSB0 (io), A3 GAC0/IO04RSB0 (io), A4 IO13RSB0 (io), A5 IO21RSB0 (io), A6 IO27RSB0 (io), A7 GBB0/IO37RSB0 (io), A8 GBA1/IO40RSB0 (io), B2 GAB0/IO02RSB0 (io), B3 GAC1/IO05RSB0 (io), B4 IO11RSB0 (io), B5 IO23RSB0 (io), B6 GBC0/IO35RSB0 (io), B7 GBB1/IO38RSB0 (io), C4 IO15RSB0 (io), C5 IO25RSB0 (io), C7 GBA0/IO39RSB0 (io)
part B pins: A9 GBA2/IO41PPB1 (io), B8 IO41NPB1 (io), B9 GBB2/IO42PSB1 (io), C8 GBC2/IO43B1 (io), C9 IO43NDB1 (io), D7 IO52NPB1 (io), D8 GCC1/IO48PDB1 (io), D9 GCC0/IO48NDB1 (io), E7 GCA0/IO50NDB1 (io), E8 GCA1/IO50PDB1 (io), E9 GCB2/IO52PPB1 (io), F7 GDA1/IO60USB1 (io), F8 GDC1/IO58UDB1 (io), F9 GDC0/IO58VDB1 (io)
part C pins: G4 IO91RSB2 (io), G5 IO86RSB2 (io), G6 IO71RSB2 (io), G7 GDB2/IO62RSB2 (io), H2 FF/GEB2/IO96RSB2 (io), H3 IO93RSB2 (io), H4 IO90RSB2 (io), H5 IO85RSB2 (io), H6 IO77RSB2 (io), H7 GDA2/IO61RSB2 (io), J1 GEA2/IO97RSB2 (io), J2 GEC2/IO95RSB2 (io), J3 IO92RSB2 (io), J4 IO88RSB2 (io), J5 IO84RSB2 (io), J6 IO74RSB2 (io)
part D pins: B1 GAA2/IO118UPB3 (io), C1 GAB2/IO117UPB3 (io), C2 IO118VPB3 (io), D1 GAC2/IO116USB3 (io), D2 IO117VPB3 (io), D3 GFA2/IO107PSB3 (io), E1 GFB0/IO109NDB3 (io), E2 GFB1/IO109PDB3 (io), E3 GFA1/IO108PSB3 (io), G1 GEA0/IO98NDB3 (io), G2 GEC1/IO100PDB3 (io), G3 GEC0/IO100NDB3 (io), H1 GEA1/IO98PDB3 (io)
part E pins: G9 TRST (in), H8 TDI (in), H9 TDO (out), J7 TCK (in), J8 TMS (in)
part F pins: D4 VCC (power), D5 VCCIB0 (power), E4 VCCIB3 (power), E5 VCC (power), E6 VCCIB1 (power), F5 VCCIB2 (power), G8 VJTAG (power), J9 VPUMP (power)
part G pins: C3 GND (power), C6 GND (power), D6 GND (power), F3 GND (power), F4 GND (power), F6 GND (power)
part H pins: F1 VCCPLF (power), F2 VCOMPLF (power)
part A text: BANK 0
part B text: BANK 1
part C text: BANK 2
part D text: BANK 3

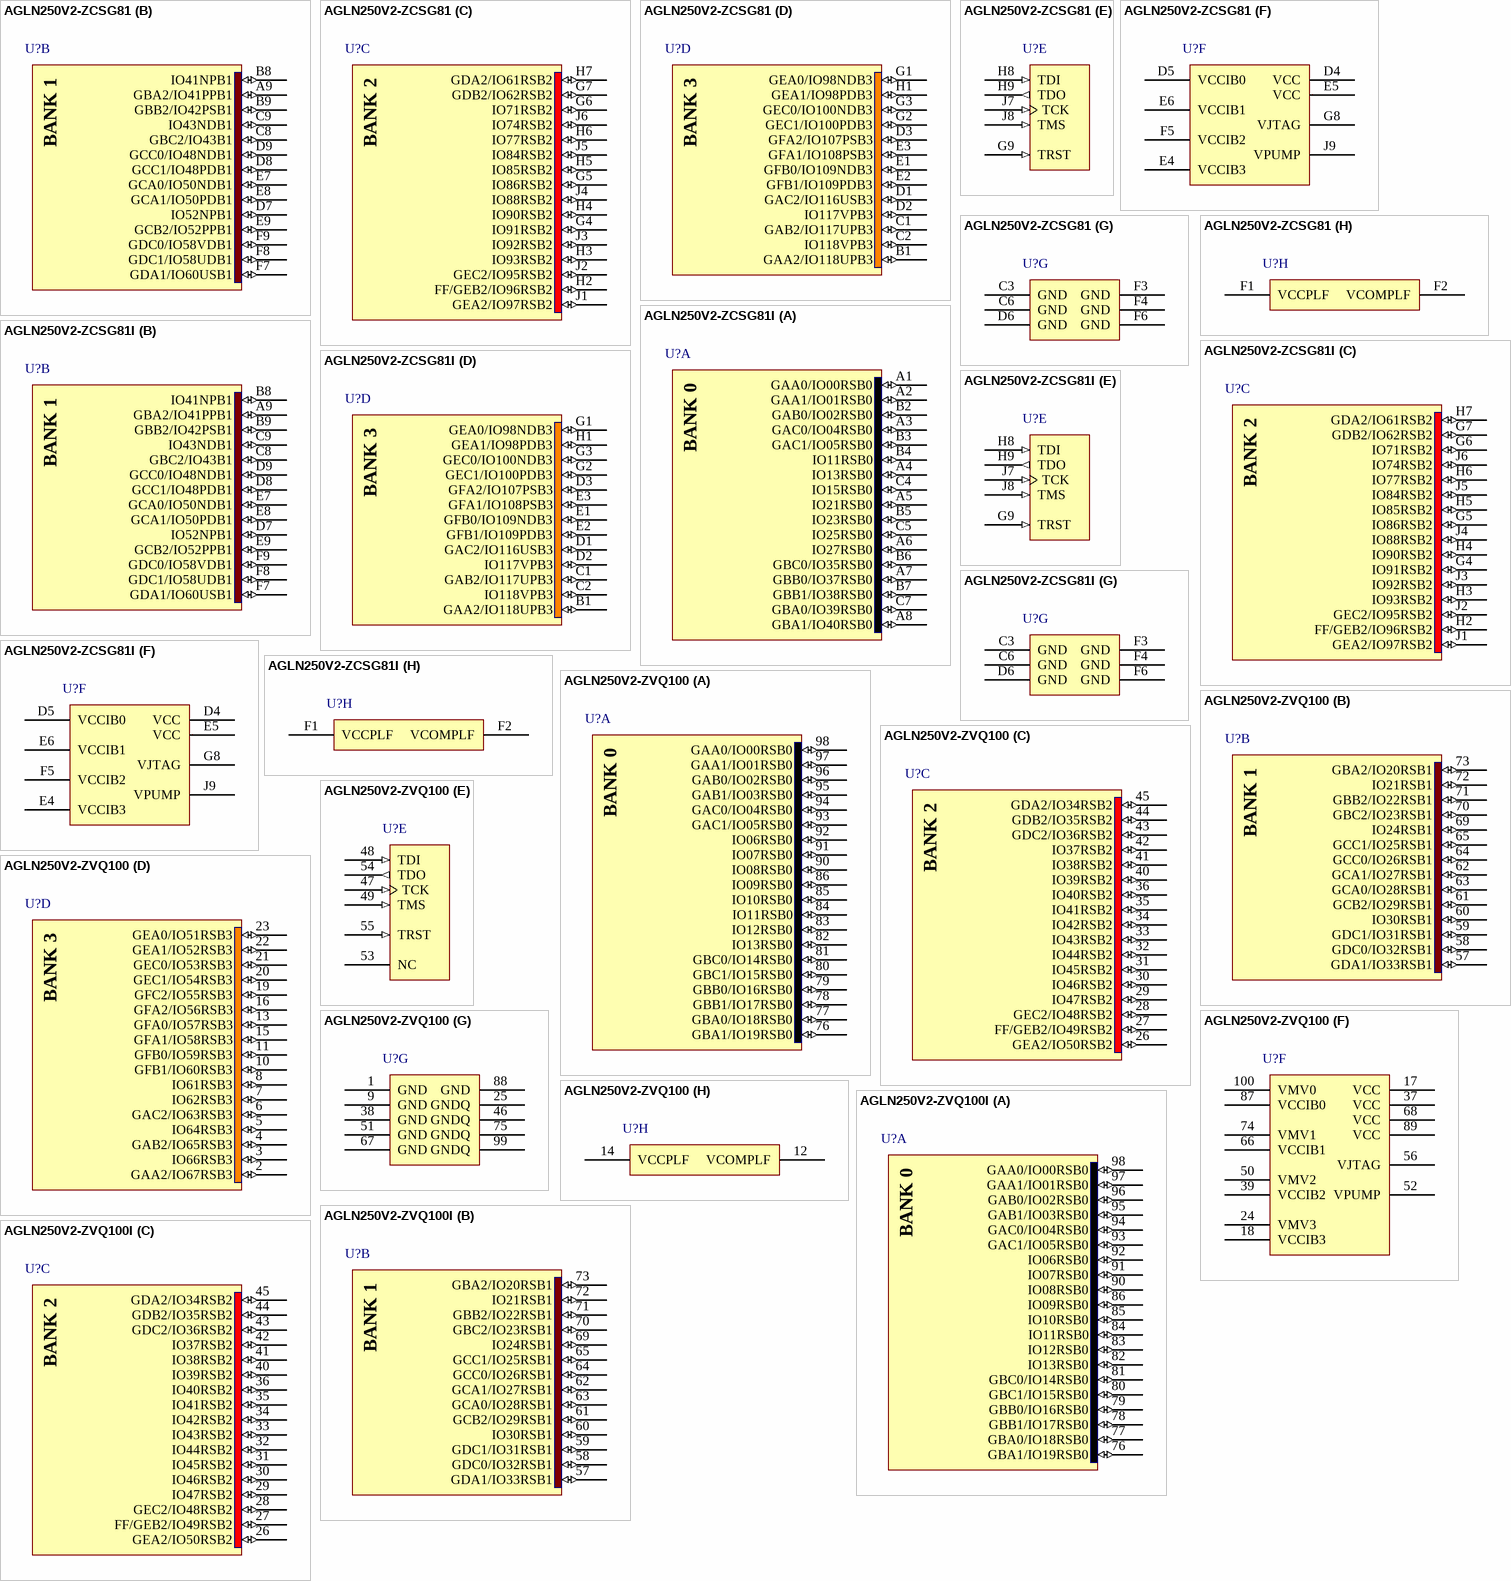
[diagram p42: symbols AGLN250V2-ZCSG81 to AGLN250V2-ZVQ100I]

## AGLN250V2-ZCSG81
designator U?
IGLOO nano Low-Power Flash 1.2 to 1.5V FPGA with Flash*Freeze, 60 User IOs, 250K System Gates, 1Kbit Flash ROM, Z feature grade, 81-Pin CSP, Commercial Grade, Pb-Free; DatasheetVersion: rev11, Jul-2010; PackageVersion: rev40, Jun-2011; PackageReference: CS81; PackageDescription: 81-Ball Chip Scale Ball Grid Array 0.5 mm Pitch (CS81); Code_JEDEC: MO-195-AB; ComponentLink1Description: Manufacturer URL; ComponentLink1URL: http://www.actel.com/; ComponentLink2Description: IGLOO nano Datasheet; ComponentLink2URL: http://www.actel.com/documents/IGLOO_nano_DS.pdf; ComponentLink3Description: Package Mechanical Drawings; ComponentLink3URL: http://www.actel.com/documents/PckgMechDrwngs.pdf; ComponentLink4Description: IGLOO nano Documents; ComponentLink4URL: http://www.actel.com/products/igloonano/docs.aspx
footprint CS81 (BGA, 81-Leads, Body 5x5mm, Pitch 0.5mm)
part A pins: A1 GAA0/IO00RSB0 (io), A2 GAA1/IO01RSB0 (io), A3 GAC0/IO04RSB0 (io), A4 IO13RSB0 (io), A5 IO21RSB0 (io), A6 IO27RSB0 (io), A7 GBB0/IO37RSB0 (io), A8 GBA1/IO40RSB0 (io), B2 GAB0/IO02RSB0 (io), B3 GAC1/IO05RSB0 (io), B4 IO11RSB0 (io), B5 IO23RSB0 (io), B6 GBC0/IO35RSB0 (io), B7 GBB1/IO38RSB0 (io), C4 IO15RSB0 (io), C5 IO25RSB0 (io), C7 GBA0/IO39RSB0 (io)
part B pins: A9 GBA2/IO41PPB1 (io), B8 IO41NPB1 (io), B9 GBB2/IO42PSB1 (io), C8 GBC2/IO43B1 (io), C9 IO43NDB1 (io), D7 IO52NPB1 (io), D8 GCC1/IO48PDB1 (io), D9 GCC0/IO48NDB1 (io), E7 GCA0/IO50NDB1 (io), E8 GCA1/IO50PDB1 (io), E9 GCB2/IO52PPB1 (io), F7 GDA1/IO60USB1 (io), F8 GDC1/IO58UDB1 (io), F9 GDC0/IO58VDB1 (io)
part C pins: G4 IO91RSB2 (io), G5 IO86RSB2 (io), G6 IO71RSB2 (io), G7 GDB2/IO62RSB2 (io), H2 FF/GEB2/IO96RSB2 (io), H3 IO93RSB2 (io), H4 IO90RSB2 (io), H5 IO85RSB2 (io), H6 IO77RSB2 (io), H7 GDA2/IO61RSB2 (io), J1 GEA2/IO97RSB2 (io), J2 GEC2/IO95RSB2 (io), J3 IO92RSB2 (io), J4 IO88RSB2 (io), J5 IO84RSB2 (io), J6 IO74RSB2 (io)
part D pins: B1 GAA2/IO118UPB3 (io), C1 GAB2/IO117UPB3 (io), C2 IO118VPB3 (io), D1 GAC2/IO116USB3 (io), D2 IO117VPB3 (io), D3 GFA2/IO107PSB3 (io), E1 GFB0/IO109NDB3 (io), E2 GFB1/IO109PDB3 (io), E3 GFA1/IO108PSB3 (io), G1 GEA0/IO98NDB3 (io), G2 GEC1/IO100PDB3 (io), G3 GEC0/IO100NDB3 (io), H1 GEA1/IO98PDB3 (io)
part E pins: G9 TRST (in), H8 TDI (in), H9 TDO (out), J7 TCK (in), J8 TMS (in)
part F pins: D4 VCC (power), D5 VCCIB0 (power), E4 VCCIB3 (power), E5 VCC (power), E6 VCCIB1 (power), F5 VCCIB2 (power), G8 VJTAG (power), J9 VPUMP (power)
part G pins: C3 GND (power), C6 GND (power), D6 GND (power), F3 GND (power), F4 GND (power), F6 GND (power)
part H pins: F1 VCCPLF (power), F2 VCOMPLF (power)
part A text: BANK 0
part B text: BANK 1
part C text: BANK 2
part D text: BANK 3

## AGLN250V2-ZCSG81I
designator U?
IGLOO nano Low-Power Flash 1.2 to 1.5V FPGA with Flash*Freeze, 60 User IOs, 250K System Gates, 1Kbit Flash ROM, Z feature grade, 81-Pin CSP, Industrial Grade, Pb-Free; DatasheetVersion: rev11, Jul-2010; PackageVersion: rev40, Jun-2011; PackageReference: CS81; PackageDescription: 81-Ball Chip Scale Ball Grid Array 0.5 mm Pitch (CS81); Code_JEDEC: MO-195-AB; ComponentLink1Description: Manufacturer URL; ComponentLink1URL: http://www.actel.com/; ComponentLink2Description: IGLOO nano Datasheet; ComponentLink2URL: http://www.actel.com/documents/IGLOO_nano_DS.pdf; ComponentLink3Description: Package Mechanical Drawings; ComponentLink3URL: http://www.actel.com/documents/PckgMechDrwngs.pdf; ComponentLink4Description: IGLOO nano Documents; ComponentLink4URL: http://www.actel.com/products/igloonano/docs.aspx
footprint CS81 (BGA, 81-Leads, Body 5x5mm, Pitch 0.5mm)
part A pins: A1 GAA0/IO00RSB0 (io), A2 GAA1/IO01RSB0 (io), A3 GAC0/IO04RSB0 (io), A4 IO13RSB0 (io), A5 IO21RSB0 (io), A6 IO27RSB0 (io), A7 GBB0/IO37RSB0 (io), A8 GBA1/IO40RSB0 (io), B2 GAB0/IO02RSB0 (io), B3 GAC1/IO05RSB0 (io), B4 IO11RSB0 (io), B5 IO23RSB0 (io), B6 GBC0/IO35RSB0 (io), B7 GBB1/IO38RSB0 (io), C4 IO15RSB0 (io), C5 IO25RSB0 (io), C7 GBA0/IO39RSB0 (io)
part B pins: A9 GBA2/IO41PPB1 (io), B8 IO41NPB1 (io), B9 GBB2/IO42PSB1 (io), C8 GBC2/IO43B1 (io), C9 IO43NDB1 (io), D7 IO52NPB1 (io), D8 GCC1/IO48PDB1 (io), D9 GCC0/IO48NDB1 (io), E7 GCA0/IO50NDB1 (io), E8 GCA1/IO50PDB1 (io), E9 GCB2/IO52PPB1 (io), F7 GDA1/IO60USB1 (io), F8 GDC1/IO58UDB1 (io), F9 GDC0/IO58VDB1 (io)
part C pins: G4 IO91RSB2 (io), G5 IO86RSB2 (io), G6 IO71RSB2 (io), G7 GDB2/IO62RSB2 (io), H2 FF/GEB2/IO96RSB2 (io), H3 IO93RSB2 (io), H4 IO90RSB2 (io), H5 IO85RSB2 (io), H6 IO77RSB2 (io), H7 GDA2/IO61RSB2 (io), J1 GEA2/IO97RSB2 (io), J2 GEC2/IO95RSB2 (io), J3 IO92RSB2 (io), J4 IO88RSB2 (io), J5 IO84RSB2 (io), J6 IO74RSB2 (io)
part D pins: B1 GAA2/IO118UPB3 (io), C1 GAB2/IO117UPB3 (io), C2 IO118VPB3 (io), D1 GAC2/IO116USB3 (io), D2 IO117VPB3 (io), D3 GFA2/IO107PSB3 (io), E1 GFB0/IO109NDB3 (io), E2 GFB1/IO109PDB3 (io), E3 GFA1/IO108PSB3 (io), G1 GEA0/IO98NDB3 (io), G2 GEC1/IO100PDB3 (io), G3 GEC0/IO100NDB3 (io), H1 GEA1/IO98PDB3 (io)
part E pins: G9 TRST (in), H8 TDI (in), H9 TDO (out), J7 TCK (in), J8 TMS (in)
part F pins: D4 VCC (power), D5 VCCIB0 (power), E4 VCCIB3 (power), E5 VCC (power), E6 VCCIB1 (power), F5 VCCIB2 (power), G8 VJTAG (power), J9 VPUMP (power)
part G pins: C3 GND (power), C6 GND (power), D6 GND (power), F3 GND (power), F4 GND (power), F6 GND (power)
part H pins: F1 VCCPLF (power), F2 VCOMPLF (power)
part A text: BANK 0
part B text: BANK 1
part C text: BANK 2
part D text: BANK 3

## AGLN250V2-ZVQ100
designator U?
IGLOO nano Low-Power Flash 1.2 to 1.5V FPGA with Flash*Freeze, 68 User IOs, 250K System Gates, 1Kbit Flash ROM, Z feature grade, 100-Pin TQFP, Commercial Grade; DatasheetVersion: rev11, Jul-2010; PackageVersion: rev40, Jun-2011; PackageReference: VQ100; PackageDescription: 100-Pin Plastic Quad Flat Pack (VQ100); Code_JEDEC: MS-026-AED; ComponentLink1Description: Manufacturer URL; ComponentLink1URL: http://www.actel.com/; ComponentLink2Description: IGLOO nano Datasheet; ComponentLink2URL: http://www.actel.com/documents/IGLOO_nano_DS.pdf; ComponentLink3Description: Package Mechanical Drawings; ComponentLink3URL: http://www.actel.com/documents/PckgMechDrwngs.pdf; ComponentLink4Description: IGLOO nano Documents; ComponentLink4URL: http://www.actel.com/products/igloonano/docs.aspx
footprint VQ100_N (Thin QFP, 100-Leads, Body 14x14mm, Pitch 0.5mm, IPC Medium Density)
footprint VQ100_L (Thin QFP, 100-Leads, Body 14x14mm, Pitch 0.5mm, IPC High Density)
footprint VQ100_M (Thin QFP, 100-Leads, Body 14x14mm, Pitch 0.5mm, IPC Low Density)
part A pins: 76 GBA1/IO19RSB0 (io), 77 GBA0/IO18RSB0 (io), 78 GBB1/IO17RSB0 (io), 79 GBB0/IO16RSB0 (io), 80 GBC1/IO15RSB0 (io), 81 GBC0/IO14RSB0 (io), 82 IO13RSB0 (io), 83 IO12RSB0 (io), 84 IO11RSB0 (io), 85 IO10RSB0 (io), 86 IO09RSB0 (io), 90 IO08RSB0 (io), 91 IO07RSB0 (io), 92 IO06RSB0 (io), 93 GAC1/IO05RSB0 (io), 94 GAC0/IO04RSB0 (io), 95 GAB1/IO03RSB0 (io), 96 GAB0/IO02RSB0 (io), 97 GAA1/IO01RSB0 (io), 98 GAA0/IO00RSB0 (io)
part B pins: 57 GDA1/IO33RSB1 (io), 58 GDC0/IO32RSB1 (io), 59 GDC1/IO31RSB1 (io), 60 IO30RSB1 (io), 61 GCB2/IO29RSB1 (io), 62 GCA1/IO27RSB1 (io), 63 GCA0/IO28RSB1 (io), 64 GCC0/IO26RSB1 (io), 65 GCC1/IO25RSB1 (io), 69 IO24RSB1 (io), 70 GBC2/IO23RSB1 (io), 71 GBB2/IO22RSB1 (io), 72 IO21RSB1 (io), 73 GBA2/IO20RSB1 (io)
part C pins: 26 GEA2/IO50RSB2 (io), 27 FF/GEB2/IO49RSB2 (io), 28 GEC2/IO48RSB2 (io), 29 IO47RSB2 (io), 30 IO46RSB2 (io), 31 IO45RSB2 (io), 32 IO44RSB2 (io), 33 IO43RSB2 (io), 34 IO42RSB2 (io), 35 IO41RSB2 (io), 36 IO40RSB2 (io), 40 IO39RSB2 (io), 41 IO38RSB2 (io), 42 IO37RSB2 (io), 43 GDC2/IO36RSB2 (io), 44 GDB2/IO35RSB2 (io), 45 GDA2/IO34RSB2 (io)
part D pins: 2 GAA2/IO67RSB3 (io), 3 IO66RSB3 (io), 4 GAB2/IO65RSB3 (io), 5 IO64RSB3 (io), 6 GAC2/IO63RSB3 (io), 7 IO62RSB3 (io), 8 IO61RSB3 (io), 10 GFB1/IO60RSB3 (io), 11 GFB0/IO59RSB3 (io), 13 GFA0/IO57RSB3 (io), 15 GFA1/IO58RSB3 (io), 16 GFA2/IO56RSB3 (io), 19 GFC2/IO55RSB3 (io), 20 GEC1/IO54RSB3 (io), 21 GEC0/IO53RSB3 (io), 22 GEA1/IO52RSB3 (io), 23 GEA0/IO51RSB3 (io)
part E pins: 47 TCK (in), 48 TDI (in), 49 TMS (in), 53 NC, 54 TDO (out), 55 TRST (in)
part F pins: 17 VCC (power), 18 VCCIB3 (power), 24 VMV3 (power), 37 VCC (power), 39 VCCIB2 (power), 50 VMV2 (power), 52 VPUMP (power), 56 VJTAG (power), 66 VCCIB1 (power), 68 VCC (power), 74 VMV1 (power), 87 VCCIB0 (power), 89 VCC (power), 100 VMV0 (power)
part G pins: 1 GND (power), 9 GND (power), 25 GNDQ (power), 38 GND (power), 46 GNDQ (power), 51 GND (power), 67 GND (power), 75 GNDQ (power), 88 GND (power), 99 GNDQ (power)
part H pins: 12 VCOMPLF (power), 14 VCCPLF (power)
part A text: BANK 0
part B text: BANK 1
part C text: BANK 2
part D text: BANK 3

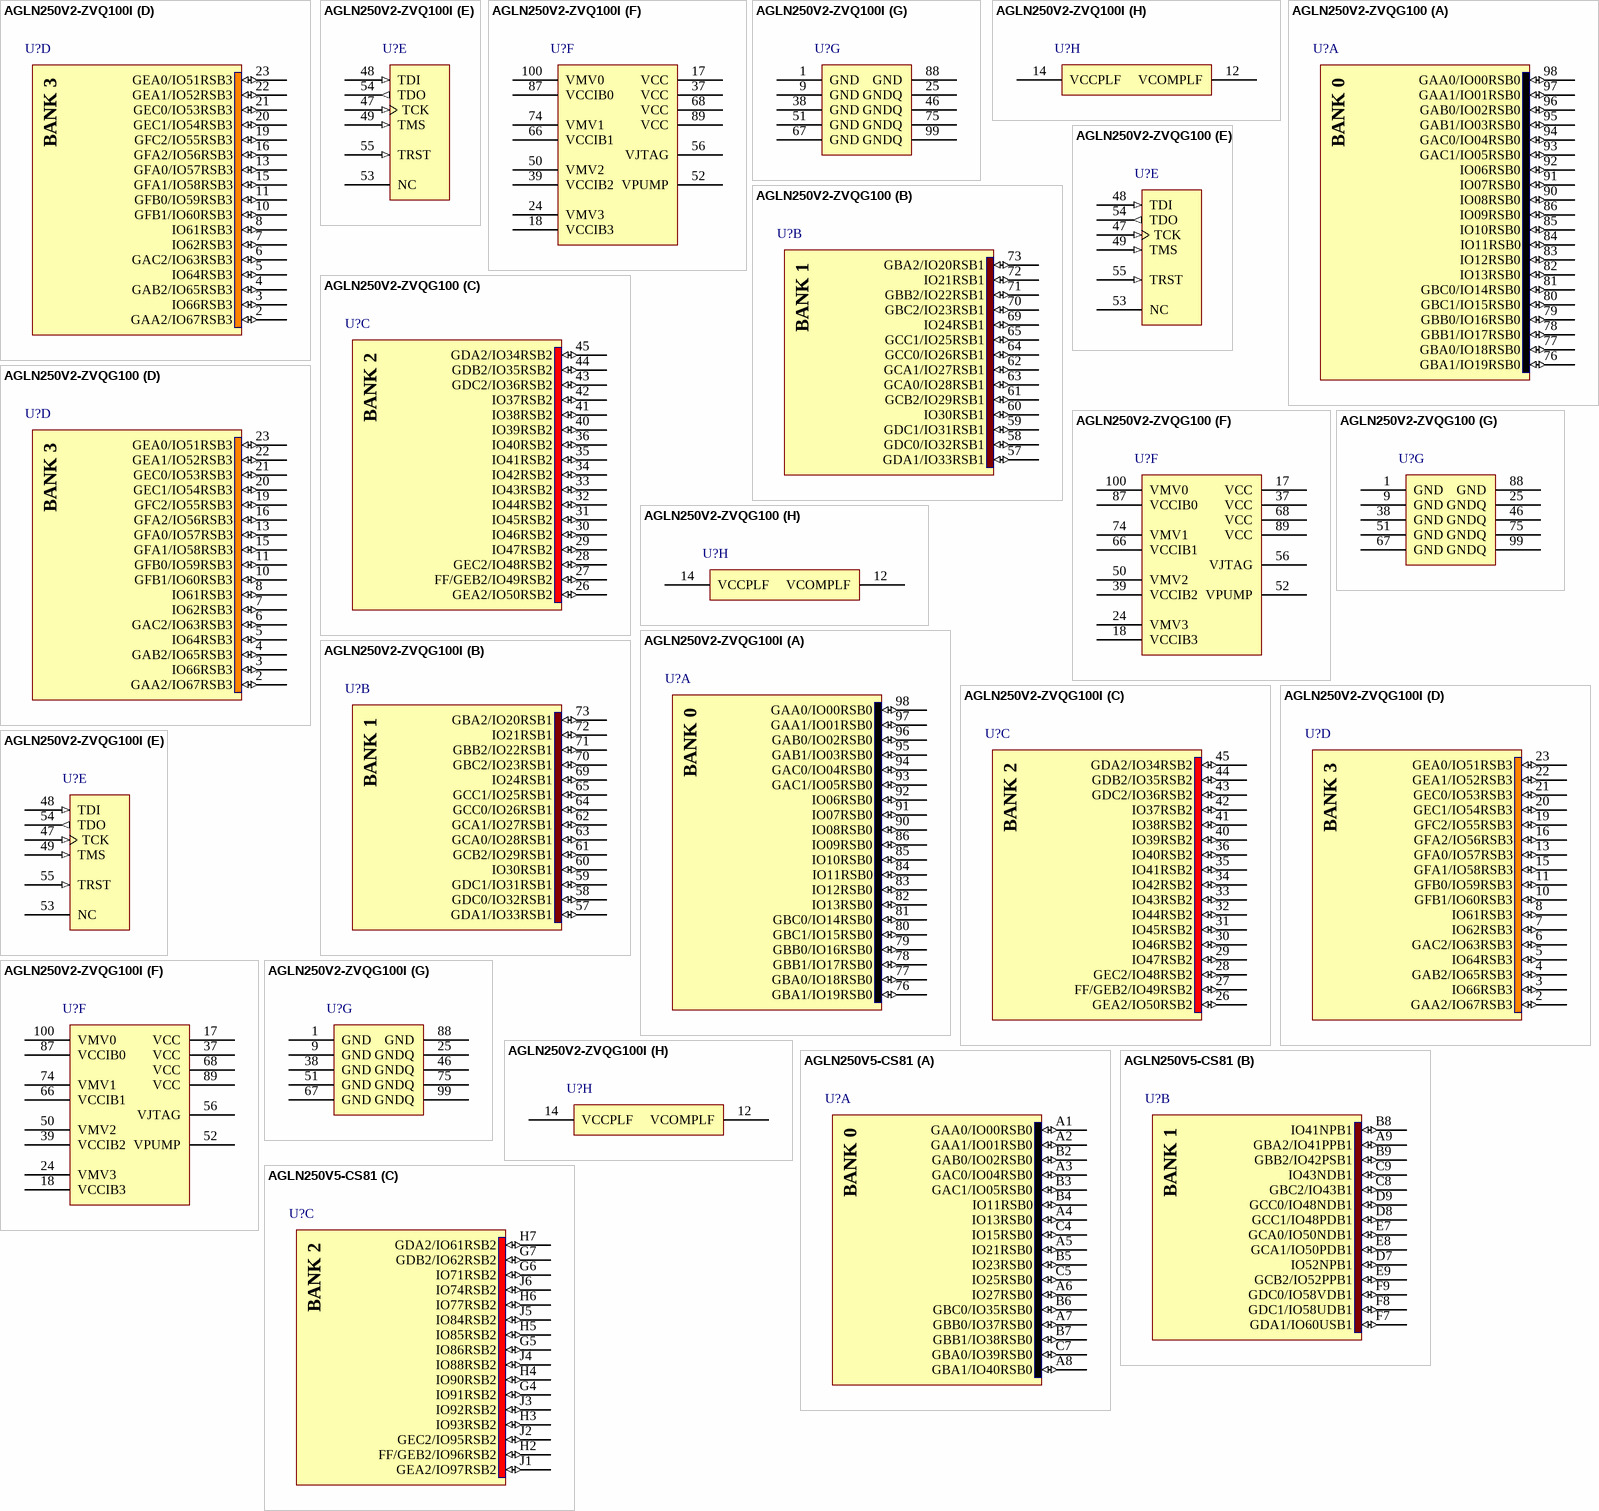
[diagram p43: symbols AGLN250V2-ZVQ100I to AGLN250V5-CS81]

## AGLN250V2-ZVQ100I
designator U?
IGLOO nano Low-Power Flash 1.2 to 1.5V FPGA with Flash*Freeze, 68 User IOs, 250K System Gates, 1Kbit Flash ROM, Z feature grade, 100-Pin TQFP, Industrial Grade; DatasheetVersion: rev11, Jul-2010; PackageVersion: rev40, Jun-2011; PackageReference: VQ100; PackageDescription: 100-Pin Plastic Quad Flat Pack (VQ100); Code_JEDEC: MS-026-AED; ComponentLink1Description: Manufacturer URL; ComponentLink1URL: http://www.actel.com/; ComponentLink2Description: IGLOO nano Datasheet; ComponentLink2URL: http://www.actel.com/documents/IGLOO_nano_DS.pdf; ComponentLink3Description: Package Mechanical Drawings; ComponentLink3URL: http://www.actel.com/documents/PckgMechDrwngs.pdf; ComponentLink4Description: IGLOO nano Documents; ComponentLink4URL: http://www.actel.com/products/igloonano/docs.aspx
footprint VQ100_N (Thin QFP, 100-Leads, Body 14x14mm, Pitch 0.5mm, IPC Medium Density)
footprint VQ100_L (Thin QFP, 100-Leads, Body 14x14mm, Pitch 0.5mm, IPC High Density)
footprint VQ100_M (Thin QFP, 100-Leads, Body 14x14mm, Pitch 0.5mm, IPC Low Density)
part A pins: 76 GBA1/IO19RSB0 (io), 77 GBA0/IO18RSB0 (io), 78 GBB1/IO17RSB0 (io), 79 GBB0/IO16RSB0 (io), 80 GBC1/IO15RSB0 (io), 81 GBC0/IO14RSB0 (io), 82 IO13RSB0 (io), 83 IO12RSB0 (io), 84 IO11RSB0 (io), 85 IO10RSB0 (io), 86 IO09RSB0 (io), 90 IO08RSB0 (io), 91 IO07RSB0 (io), 92 IO06RSB0 (io), 93 GAC1/IO05RSB0 (io), 94 GAC0/IO04RSB0 (io), 95 GAB1/IO03RSB0 (io), 96 GAB0/IO02RSB0 (io), 97 GAA1/IO01RSB0 (io), 98 GAA0/IO00RSB0 (io)
part B pins: 57 GDA1/IO33RSB1 (io), 58 GDC0/IO32RSB1 (io), 59 GDC1/IO31RSB1 (io), 60 IO30RSB1 (io), 61 GCB2/IO29RSB1 (io), 62 GCA1/IO27RSB1 (io), 63 GCA0/IO28RSB1 (io), 64 GCC0/IO26RSB1 (io), 65 GCC1/IO25RSB1 (io), 69 IO24RSB1 (io), 70 GBC2/IO23RSB1 (io), 71 GBB2/IO22RSB1 (io), 72 IO21RSB1 (io), 73 GBA2/IO20RSB1 (io)
part C pins: 26 GEA2/IO50RSB2 (io), 27 FF/GEB2/IO49RSB2 (io), 28 GEC2/IO48RSB2 (io), 29 IO47RSB2 (io), 30 IO46RSB2 (io), 31 IO45RSB2 (io), 32 IO44RSB2 (io), 33 IO43RSB2 (io), 34 IO42RSB2 (io), 35 IO41RSB2 (io), 36 IO40RSB2 (io), 40 IO39RSB2 (io), 41 IO38RSB2 (io), 42 IO37RSB2 (io), 43 GDC2/IO36RSB2 (io), 44 GDB2/IO35RSB2 (io), 45 GDA2/IO34RSB2 (io)
part D pins: 2 GAA2/IO67RSB3 (io), 3 IO66RSB3 (io), 4 GAB2/IO65RSB3 (io), 5 IO64RSB3 (io), 6 GAC2/IO63RSB3 (io), 7 IO62RSB3 (io), 8 IO61RSB3 (io), 10 GFB1/IO60RSB3 (io), 11 GFB0/IO59RSB3 (io), 13 GFA0/IO57RSB3 (io), 15 GFA1/IO58RSB3 (io), 16 GFA2/IO56RSB3 (io), 19 GFC2/IO55RSB3 (io), 20 GEC1/IO54RSB3 (io), 21 GEC0/IO53RSB3 (io), 22 GEA1/IO52RSB3 (io), 23 GEA0/IO51RSB3 (io)
part E pins: 47 TCK (in), 48 TDI (in), 49 TMS (in), 53 NC, 54 TDO (out), 55 TRST (in)
part F pins: 17 VCC (power), 18 VCCIB3 (power), 24 VMV3 (power), 37 VCC (power), 39 VCCIB2 (power), 50 VMV2 (power), 52 VPUMP (power), 56 VJTAG (power), 66 VCCIB1 (power), 68 VCC (power), 74 VMV1 (power), 87 VCCIB0 (power), 89 VCC (power), 100 VMV0 (power)
part G pins: 1 GND (power), 9 GND (power), 25 GNDQ (power), 38 GND (power), 46 GNDQ (power), 51 GND (power), 67 GND (power), 75 GNDQ (power), 88 GND (power), 99 GNDQ (power)
part H pins: 12 VCOMPLF (power), 14 VCCPLF (power)
part A text: BANK 0
part B text: BANK 1
part C text: BANK 2
part D text: BANK 3

## AGLN250V2-ZVQG100
designator U?
IGLOO nano Low-Power Flash 1.2 to 1.5V FPGA with Flash*Freeze, 68 User IOs, 250K System Gates, 1Kbit Flash ROM, Z feature grade, 100-Pin TQFP, Commercial Grade, Pb-Free; DatasheetVersion: rev11, Jul-2010; PackageVersion: rev40, Jun-2011; PackageReference: VQ100; PackageDescription: 100-Pin Plastic Quad Flat Pack (VQ100); Code_JEDEC: MS-026-AED; ComponentLink1Description: Manufacturer URL; ComponentLink1URL: http://www.actel.com/; ComponentLink2Description: IGLOO nano Datasheet; ComponentLink2URL: http://www.actel.com/documents/IGLOO_nano_DS.pdf; ComponentLink3Description: Package Mechanical Drawings; ComponentLink3URL: http://www.actel.com/documents/PckgMechDrwngs.pdf; ComponentLink4Description: IGLOO nano Documents; ComponentLink4URL: http://www.actel.com/products/igloonano/docs.aspx
footprint VQ100_N (Thin QFP, 100-Leads, Body 14x14mm, Pitch 0.5mm, IPC Medium Density)
footprint VQ100_L (Thin QFP, 100-Leads, Body 14x14mm, Pitch 0.5mm, IPC High Density)
footprint VQ100_M (Thin QFP, 100-Leads, Body 14x14mm, Pitch 0.5mm, IPC Low Density)
part A pins: 76 GBA1/IO19RSB0 (io), 77 GBA0/IO18RSB0 (io), 78 GBB1/IO17RSB0 (io), 79 GBB0/IO16RSB0 (io), 80 GBC1/IO15RSB0 (io), 81 GBC0/IO14RSB0 (io), 82 IO13RSB0 (io), 83 IO12RSB0 (io), 84 IO11RSB0 (io), 85 IO10RSB0 (io), 86 IO09RSB0 (io), 90 IO08RSB0 (io), 91 IO07RSB0 (io), 92 IO06RSB0 (io), 93 GAC1/IO05RSB0 (io), 94 GAC0/IO04RSB0 (io), 95 GAB1/IO03RSB0 (io), 96 GAB0/IO02RSB0 (io), 97 GAA1/IO01RSB0 (io), 98 GAA0/IO00RSB0 (io)
part B pins: 57 GDA1/IO33RSB1 (io), 58 GDC0/IO32RSB1 (io), 59 GDC1/IO31RSB1 (io), 60 IO30RSB1 (io), 61 GCB2/IO29RSB1 (io), 62 GCA1/IO27RSB1 (io), 63 GCA0/IO28RSB1 (io), 64 GCC0/IO26RSB1 (io), 65 GCC1/IO25RSB1 (io), 69 IO24RSB1 (io), 70 GBC2/IO23RSB1 (io), 71 GBB2/IO22RSB1 (io), 72 IO21RSB1 (io), 73 GBA2/IO20RSB1 (io)
part C pins: 26 GEA2/IO50RSB2 (io), 27 FF/GEB2/IO49RSB2 (io), 28 GEC2/IO48RSB2 (io), 29 IO47RSB2 (io), 30 IO46RSB2 (io), 31 IO45RSB2 (io), 32 IO44RSB2 (io), 33 IO43RSB2 (io), 34 IO42RSB2 (io), 35 IO41RSB2 (io), 36 IO40RSB2 (io), 40 IO39RSB2 (io), 41 IO38RSB2 (io), 42 IO37RSB2 (io), 43 GDC2/IO36RSB2 (io), 44 GDB2/IO35RSB2 (io), 45 GDA2/IO34RSB2 (io)
part D pins: 2 GAA2/IO67RSB3 (io), 3 IO66RSB3 (io), 4 GAB2/IO65RSB3 (io), 5 IO64RSB3 (io), 6 GAC2/IO63RSB3 (io), 7 IO62RSB3 (io), 8 IO61RSB3 (io), 10 GFB1/IO60RSB3 (io), 11 GFB0/IO59RSB3 (io), 13 GFA0/IO57RSB3 (io), 15 GFA1/IO58RSB3 (io), 16 GFA2/IO56RSB3 (io), 19 GFC2/IO55RSB3 (io), 20 GEC1/IO54RSB3 (io), 21 GEC0/IO53RSB3 (io), 22 GEA1/IO52RSB3 (io), 23 GEA0/IO51RSB3 (io)
part E pins: 47 TCK (in), 48 TDI (in), 49 TMS (in), 53 NC, 54 TDO (out), 55 TRST (in)
part F pins: 17 VCC (power), 18 VCCIB3 (power), 24 VMV3 (power), 37 VCC (power), 39 VCCIB2 (power), 50 VMV2 (power), 52 VPUMP (power), 56 VJTAG (power), 66 VCCIB1 (power), 68 VCC (power), 74 VMV1 (power), 87 VCCIB0 (power), 89 VCC (power), 100 VMV0 (power)
part G pins: 1 GND (power), 9 GND (power), 25 GNDQ (power), 38 GND (power), 46 GNDQ (power), 51 GND (power), 67 GND (power), 75 GNDQ (power), 88 GND (power), 99 GNDQ (power)
part H pins: 12 VCOMPLF (power), 14 VCCPLF (power)
part A text: BANK 0
part B text: BANK 1
part C text: BANK 2
part D text: BANK 3

## AGLN250V2-ZVQG100I
designator U?
IGLOO nano Low-Power Flash 1.2 to 1.5V FPGA with Flash*Freeze, 68 User IOs, 250K System Gates, 1Kbit Flash ROM, Z feature grade, 100-Pin TQFP, Industrial Grade, Pb-Free; DatasheetVersion: rev11, Jul-2010; PackageVersion: rev40, Jun-2011; PackageReference: VQ100; PackageDescription: 100-Pin Plastic Quad Flat Pack (VQ100); Code_JEDEC: MS-026-AED; ComponentLink1Description: Manufacturer URL; ComponentLink1URL: http://www.actel.com/; ComponentLink2Description: IGLOO nano Datasheet; ComponentLink2URL: http://www.actel.com/documents/IGLOO_nano_DS.pdf; ComponentLink3Description: Package Mechanical Drawings; ComponentLink3URL: http://www.actel.com/documents/PckgMechDrwngs.pdf; ComponentLink4Description: IGLOO nano Documents; ComponentLink4URL: http://www.actel.com/products/igloonano/docs.aspx
footprint VQ100_N (Thin QFP, 100-Leads, Body 14x14mm, Pitch 0.5mm, IPC Medium Density)
footprint VQ100_L (Thin QFP, 100-Leads, Body 14x14mm, Pitch 0.5mm, IPC High Density)
footprint VQ100_M (Thin QFP, 100-Leads, Body 14x14mm, Pitch 0.5mm, IPC Low Density)
part A pins: 76 GBA1/IO19RSB0 (io), 77 GBA0/IO18RSB0 (io), 78 GBB1/IO17RSB0 (io), 79 GBB0/IO16RSB0 (io), 80 GBC1/IO15RSB0 (io), 81 GBC0/IO14RSB0 (io), 82 IO13RSB0 (io), 83 IO12RSB0 (io), 84 IO11RSB0 (io), 85 IO10RSB0 (io), 86 IO09RSB0 (io), 90 IO08RSB0 (io), 91 IO07RSB0 (io), 92 IO06RSB0 (io), 93 GAC1/IO05RSB0 (io), 94 GAC0/IO04RSB0 (io), 95 GAB1/IO03RSB0 (io), 96 GAB0/IO02RSB0 (io), 97 GAA1/IO01RSB0 (io), 98 GAA0/IO00RSB0 (io)
part B pins: 57 GDA1/IO33RSB1 (io), 58 GDC0/IO32RSB1 (io), 59 GDC1/IO31RSB1 (io), 60 IO30RSB1 (io), 61 GCB2/IO29RSB1 (io), 62 GCA1/IO27RSB1 (io), 63 GCA0/IO28RSB1 (io), 64 GCC0/IO26RSB1 (io), 65 GCC1/IO25RSB1 (io), 69 IO24RSB1 (io), 70 GBC2/IO23RSB1 (io), 71 GBB2/IO22RSB1 (io), 72 IO21RSB1 (io), 73 GBA2/IO20RSB1 (io)
part C pins: 26 GEA2/IO50RSB2 (io), 27 FF/GEB2/IO49RSB2 (io), 28 GEC2/IO48RSB2 (io), 29 IO47RSB2 (io), 30 IO46RSB2 (io), 31 IO45RSB2 (io), 32 IO44RSB2 (io), 33 IO43RSB2 (io), 34 IO42RSB2 (io), 35 IO41RSB2 (io), 36 IO40RSB2 (io), 40 IO39RSB2 (io), 41 IO38RSB2 (io), 42 IO37RSB2 (io), 43 GDC2/IO36RSB2 (io), 44 GDB2/IO35RSB2 (io), 45 GDA2/IO34RSB2 (io)
part D pins: 2 GAA2/IO67RSB3 (io), 3 IO66RSB3 (io), 4 GAB2/IO65RSB3 (io), 5 IO64RSB3 (io), 6 GAC2/IO63RSB3 (io), 7 IO62RSB3 (io), 8 IO61RSB3 (io), 10 GFB1/IO60RSB3 (io), 11 GFB0/IO59RSB3 (io), 13 GFA0/IO57RSB3 (io), 15 GFA1/IO58RSB3 (io), 16 GFA2/IO56RSB3 (io), 19 GFC2/IO55RSB3 (io), 20 GEC1/IO54RSB3 (io), 21 GEC0/IO53RSB3 (io), 22 GEA1/IO52RSB3 (io), 23 GEA0/IO51RSB3 (io)
part E pins: 47 TCK (in), 48 TDI (in), 49 TMS (in), 53 NC, 54 TDO (out), 55 TRST (in)
part F pins: 17 VCC (power), 18 VCCIB3 (power), 24 VMV3 (power), 37 VCC (power), 39 VCCIB2 (power), 50 VMV2 (power), 52 VPUMP (power), 56 VJTAG (power), 66 VCCIB1 (power), 68 VCC (power), 74 VMV1 (power), 87 VCCIB0 (power), 89 VCC (power), 100 VMV0 (power)
part G pins: 1 GND (power), 9 GND (power), 25 GNDQ (power), 38 GND (power), 46 GNDQ (power), 51 GND (power), 67 GND (power), 75 GNDQ (power), 88 GND (power), 99 GNDQ (power)
part H pins: 12 VCOMPLF (power), 14 VCCPLF (power)
part A text: BANK 0
part B text: BANK 1
part C text: BANK 2
part D text: BANK 3

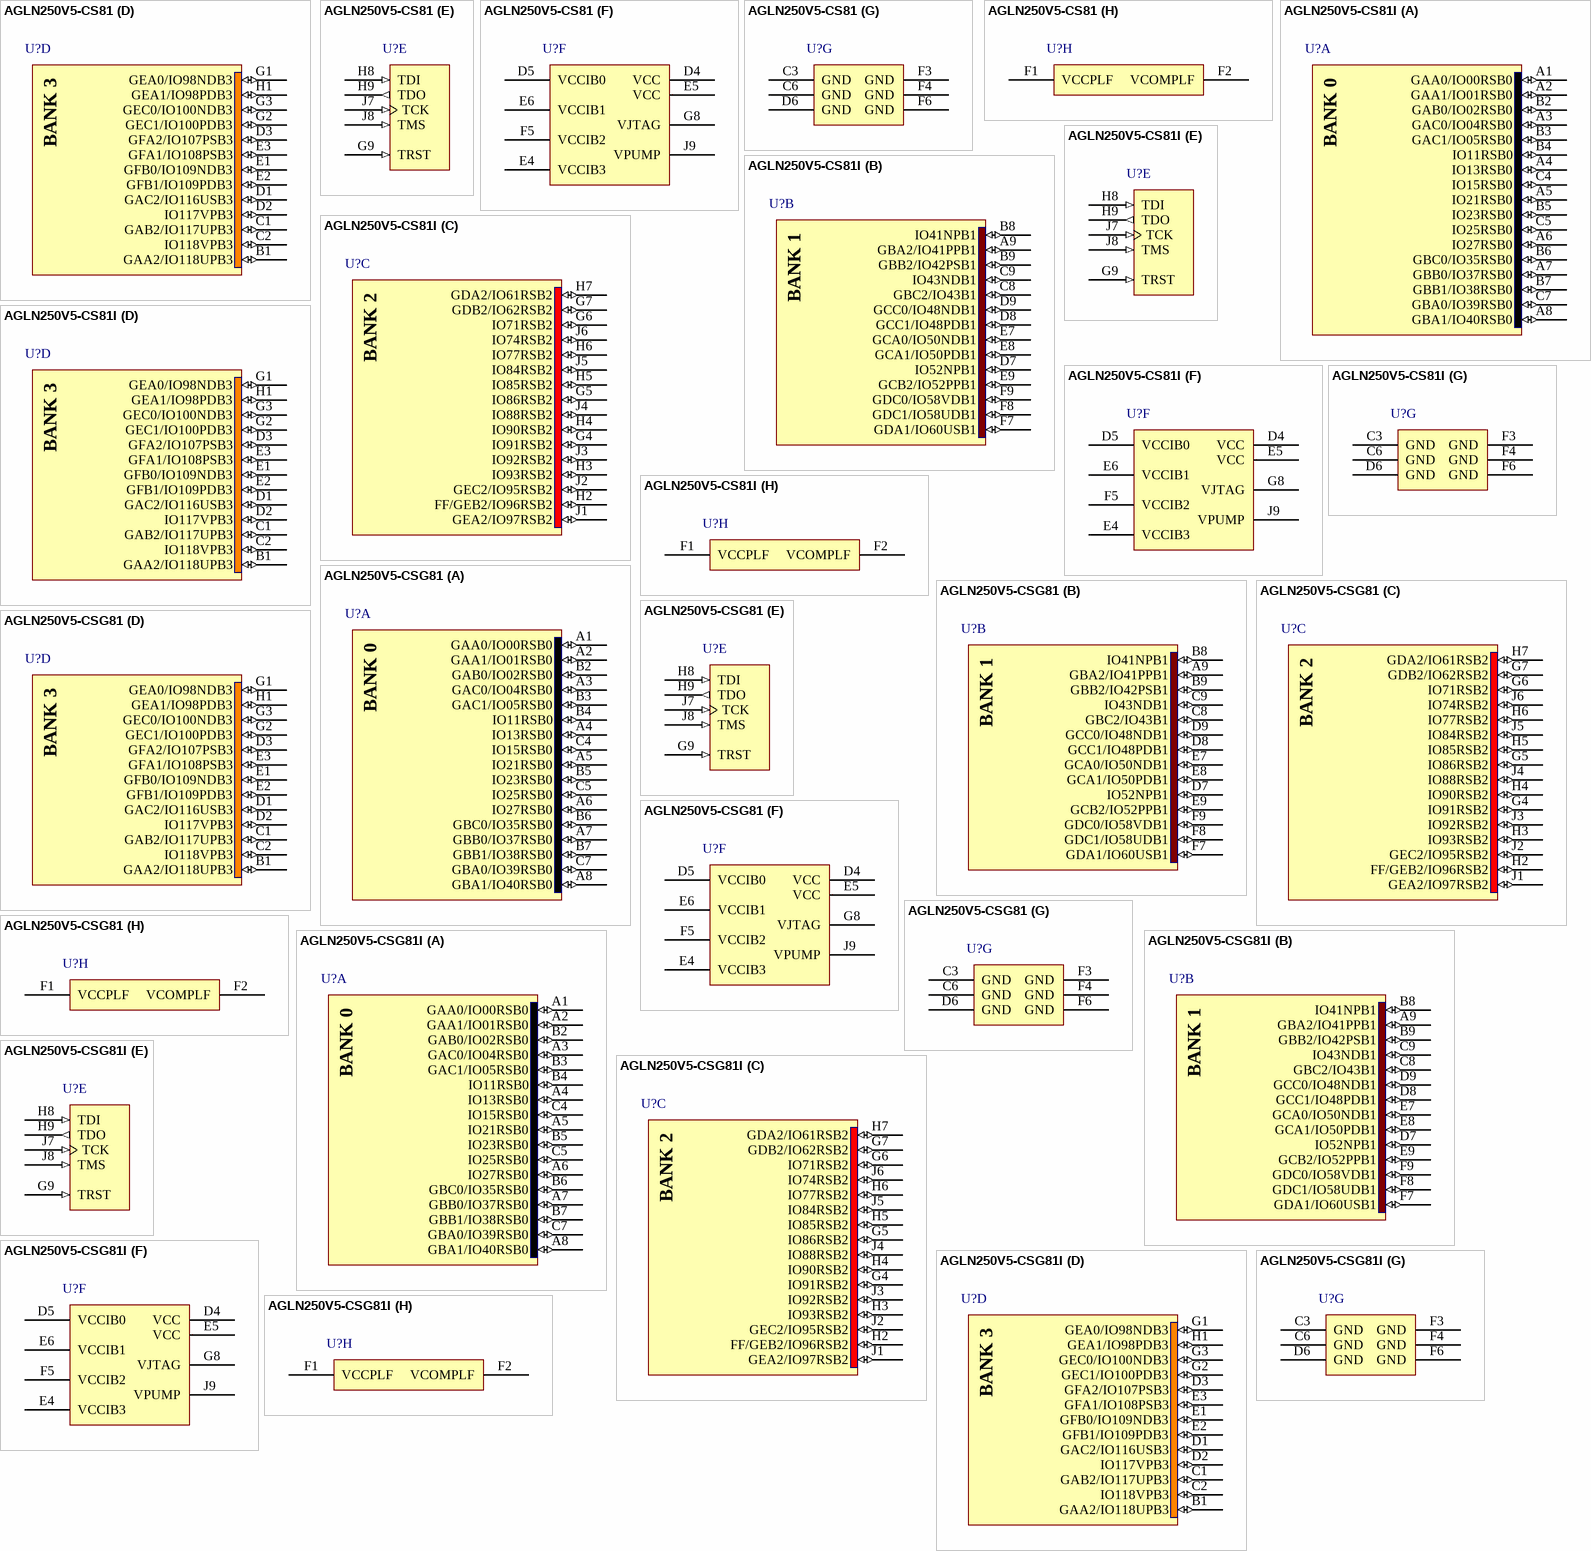
[diagram p44: symbols AGLN250V5-CS81 to AGLN250V5-CSG81I]

## AGLN250V5-CS81
designator U?
IGLOO nano Low-Power Flash 1.5V FPGA with Flash*Freeze, 60 User IOs, 250K System Gates, 1Kbit Flash ROM, 81-Pin CSP, Commercial Grade; DatasheetVersion: rev11, Jul-2010; PackageVersion: rev40, Jun-2011; PackageReference: CS81; PackageDescription: 81-Ball Chip Scale Ball Grid Array 0.5 mm Pitch (CS81); Code_JEDEC: MO-195-AB; ComponentLink1Description: Manufacturer URL; ComponentLink1URL: http://www.actel.com/; ComponentLink2Description: IGLOO nano Datasheet; ComponentLink2URL: http://www.actel.com/documents/IGLOO_nano_DS.pdf; ComponentLink3Description: Package Mechanical Drawings; ComponentLink3URL: http://www.actel.com/documents/PckgMechDrwngs.pdf; ComponentLink4Description: IGLOO nano Documents; ComponentLink4URL: http://www.actel.com/products/igloonano/docs.aspx
footprint CS81 (BGA, 81-Leads, Body 5x5mm, Pitch 0.5mm)
part A pins: A1 GAA0/IO00RSB0 (io), A2 GAA1/IO01RSB0 (io), A3 GAC0/IO04RSB0 (io), A4 IO13RSB0 (io), A5 IO21RSB0 (io), A6 IO27RSB0 (io), A7 GBB0/IO37RSB0 (io), A8 GBA1/IO40RSB0 (io), B2 GAB0/IO02RSB0 (io), B3 GAC1/IO05RSB0 (io), B4 IO11RSB0 (io), B5 IO23RSB0 (io), B6 GBC0/IO35RSB0 (io), B7 GBB1/IO38RSB0 (io), C4 IO15RSB0 (io), C5 IO25RSB0 (io), C7 GBA0/IO39RSB0 (io)
part B pins: A9 GBA2/IO41PPB1 (io), B8 IO41NPB1 (io), B9 GBB2/IO42PSB1 (io), C8 GBC2/IO43B1 (io), C9 IO43NDB1 (io), D7 IO52NPB1 (io), D8 GCC1/IO48PDB1 (io), D9 GCC0/IO48NDB1 (io), E7 GCA0/IO50NDB1 (io), E8 GCA1/IO50PDB1 (io), E9 GCB2/IO52PPB1 (io), F7 GDA1/IO60USB1 (io), F8 GDC1/IO58UDB1 (io), F9 GDC0/IO58VDB1 (io)
part C pins: G4 IO91RSB2 (io), G5 IO86RSB2 (io), G6 IO71RSB2 (io), G7 GDB2/IO62RSB2 (io), H2 FF/GEB2/IO96RSB2 (io), H3 IO93RSB2 (io), H4 IO90RSB2 (io), H5 IO85RSB2 (io), H6 IO77RSB2 (io), H7 GDA2/IO61RSB2 (io), J1 GEA2/IO97RSB2 (io), J2 GEC2/IO95RSB2 (io), J3 IO92RSB2 (io), J4 IO88RSB2 (io), J5 IO84RSB2 (io), J6 IO74RSB2 (io)
part D pins: B1 GAA2/IO118UPB3 (io), C1 GAB2/IO117UPB3 (io), C2 IO118VPB3 (io), D1 GAC2/IO116USB3 (io), D2 IO117VPB3 (io), D3 GFA2/IO107PSB3 (io), E1 GFB0/IO109NDB3 (io), E2 GFB1/IO109PDB3 (io), E3 GFA1/IO108PSB3 (io), G1 GEA0/IO98NDB3 (io), G2 GEC1/IO100PDB3 (io), G3 GEC0/IO100NDB3 (io), H1 GEA1/IO98PDB3 (io)
part E pins: G9 TRST (in), H8 TDI (in), H9 TDO (out), J7 TCK (in), J8 TMS (in)
part F pins: D4 VCC (power), D5 VCCIB0 (power), E4 VCCIB3 (power), E5 VCC (power), E6 VCCIB1 (power), F5 VCCIB2 (power), G8 VJTAG (power), J9 VPUMP (power)
part G pins: C3 GND (power), C6 GND (power), D6 GND (power), F3 GND (power), F4 GND (power), F6 GND (power)
part H pins: F1 VCCPLF (power), F2 VCOMPLF (power)
part A text: BANK 0
part B text: BANK 1
part C text: BANK 2
part D text: BANK 3

## AGLN250V5-CS81I
designator U?
IGLOO nano Low-Power Flash 1.5V FPGA with Flash*Freeze, 60 User IOs, 250K System Gates, 1Kbit Flash ROM, 81-Pin CSP, Industrial Grade; DatasheetVersion: rev11, Jul-2010; PackageVersion: rev40, Jun-2011; PackageReference: CS81; PackageDescription: 81-Ball Chip Scale Ball Grid Array 0.5 mm Pitch (CS81); Code_JEDEC: MO-195-AB; ComponentLink1Description: Manufacturer URL; ComponentLink1URL: http://www.actel.com/; ComponentLink2Description: IGLOO nano Datasheet; ComponentLink2URL: http://www.actel.com/documents/IGLOO_nano_DS.pdf; ComponentLink3Description: Package Mechanical Drawings; ComponentLink3URL: http://www.actel.com/documents/PckgMechDrwngs.pdf; ComponentLink4Description: IGLOO nano Documents; ComponentLink4URL: http://www.actel.com/products/igloonano/docs.aspx
footprint CS81 (BGA, 81-Leads, Body 5x5mm, Pitch 0.5mm)
part A pins: A1 GAA0/IO00RSB0 (io), A2 GAA1/IO01RSB0 (io), A3 GAC0/IO04RSB0 (io), A4 IO13RSB0 (io), A5 IO21RSB0 (io), A6 IO27RSB0 (io), A7 GBB0/IO37RSB0 (io), A8 GBA1/IO40RSB0 (io), B2 GAB0/IO02RSB0 (io), B3 GAC1/IO05RSB0 (io), B4 IO11RSB0 (io), B5 IO23RSB0 (io), B6 GBC0/IO35RSB0 (io), B7 GBB1/IO38RSB0 (io), C4 IO15RSB0 (io), C5 IO25RSB0 (io), C7 GBA0/IO39RSB0 (io)
part B pins: A9 GBA2/IO41PPB1 (io), B8 IO41NPB1 (io), B9 GBB2/IO42PSB1 (io), C8 GBC2/IO43B1 (io), C9 IO43NDB1 (io), D7 IO52NPB1 (io), D8 GCC1/IO48PDB1 (io), D9 GCC0/IO48NDB1 (io), E7 GCA0/IO50NDB1 (io), E8 GCA1/IO50PDB1 (io), E9 GCB2/IO52PPB1 (io), F7 GDA1/IO60USB1 (io), F8 GDC1/IO58UDB1 (io), F9 GDC0/IO58VDB1 (io)
part C pins: G4 IO91RSB2 (io), G5 IO86RSB2 (io), G6 IO71RSB2 (io), G7 GDB2/IO62RSB2 (io), H2 FF/GEB2/IO96RSB2 (io), H3 IO93RSB2 (io), H4 IO90RSB2 (io), H5 IO85RSB2 (io), H6 IO77RSB2 (io), H7 GDA2/IO61RSB2 (io), J1 GEA2/IO97RSB2 (io), J2 GEC2/IO95RSB2 (io), J3 IO92RSB2 (io), J4 IO88RSB2 (io), J5 IO84RSB2 (io), J6 IO74RSB2 (io)
part D pins: B1 GAA2/IO118UPB3 (io), C1 GAB2/IO117UPB3 (io), C2 IO118VPB3 (io), D1 GAC2/IO116USB3 (io), D2 IO117VPB3 (io), D3 GFA2/IO107PSB3 (io), E1 GFB0/IO109NDB3 (io), E2 GFB1/IO109PDB3 (io), E3 GFA1/IO108PSB3 (io), G1 GEA0/IO98NDB3 (io), G2 GEC1/IO100PDB3 (io), G3 GEC0/IO100NDB3 (io), H1 GEA1/IO98PDB3 (io)
part E pins: G9 TRST (in), H8 TDI (in), H9 TDO (out), J7 TCK (in), J8 TMS (in)
part F pins: D4 VCC (power), D5 VCCIB0 (power), E4 VCCIB3 (power), E5 VCC (power), E6 VCCIB1 (power), F5 VCCIB2 (power), G8 VJTAG (power), J9 VPUMP (power)
part G pins: C3 GND (power), C6 GND (power), D6 GND (power), F3 GND (power), F4 GND (power), F6 GND (power)
part H pins: F1 VCCPLF (power), F2 VCOMPLF (power)
part A text: BANK 0
part B text: BANK 1
part C text: BANK 2
part D text: BANK 3